# Altium schematic symbol library hphonglib.SchLib: 598 symbols (part 3 of 8)
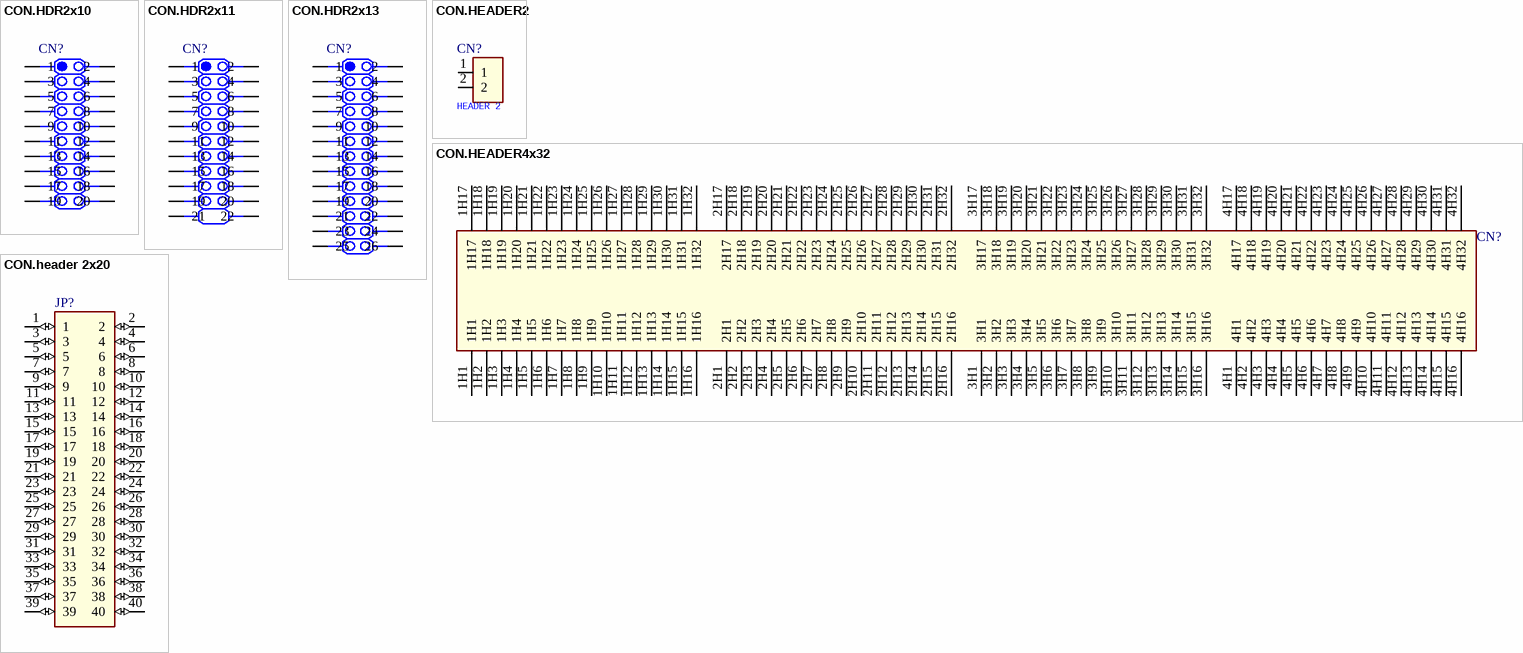
[diagram p33: symbols CON.HDR2x10 to CON.header 2x20]

## CON.HEADER4x32
designator CN?  (value not drawn)
Header 4x32; ComponentLink1Description: Digikey Part link; ComponentLink2Description: Open DataSheet; ComponentLink2URL: H:\LIBRARY\LIBRARY.Datasheet\
pins: 1H1, 1H2, 1H3, 1H4, 1H5, 1H6, 1H7, 1H8, 1H9, 1H10, 1H11, 1H12, 1H13, 1H14, 1H15, 1H16, 1H17, 1H18, 1H19, 1H20, 1H21, 1H22, 1H23, 1H24, 1H25, 1H26, 1H27, 1H28, 1H29, 1H30, 1H31, 1H32, 2H1, 2H2, 2H3, 2H4, 2H5, 2H6, 2H7, 2H8, 2H9, 2H10, 2H11, 2H12, 2H13, 2H14, 2H15, 2H16, 2H17, 2H18, 2H19, 2H20, 2H21, 2H22, 2H23, 2H24, 2H25, 2H26, 2H27, 2H28, 2H29, 2H30, 2H31, 2H32, 3H1, 3H2, 3H3, 3H4, 3H5, 3H6, 3H7, 3H8, 3H9, 3H10, 3H11, 3H12, 3H13, 3H14, 3H15, 3H16, 3H17, 3H18, 3H19, 3H20, 3H21, 3H22, 3H23, 3H24, 3H25, 3H26, 3H27, 3H28, 3H29, 3H30, 3H31, 3H32, 4H1, 4H2, 4H3, 4H4, 4H5, 4H6, 4H7, 4H8, 4H9, 4H10, 4H11, 4H12, 4H13, 4H14, 4H15, 4H16, 4H17, 4H18, 4H19, 4H20, 4H21, 4H22, 4H23, 4H24, 4H25, 4H26, 4H27, 4H28, 4H29, 4H30, 4H31, 4H32

## CON.header 2x20
designator JP?  (value not drawn)
2x20 header; Publisher: Hoang Nguyen; ComponentLink1Description: Digikey Part link; ComponentLink2Description: Open DataSheet; ComponentLink2URL: H:\LIBRARY\LIBRARY.Datasheet\
footprint HDR2X20
footprint HDR2X20H
pins: 1 (io), 2 (io), 3 (io), 4 (io), 5 (io), 6 (io), 7 (io), 8 (io), 9 (io), 10 (io), 11 (io), 12 (io), 13 (io), 14 (io), 15 (io), 16 (io), 17 (io), 18 (io), 19 (io), 20 (io), 21 (io), 22 (io), 23 (io), 24 (io), 25 (io), 26 (io), 27 (io), 28 (io), 29 (io), 30 (io), 31 (io), 32 (io), 33 (io), 34 (io), 35 (io), 36 (io), 37 (io), 38 (io), 39 (io), 40 (io)

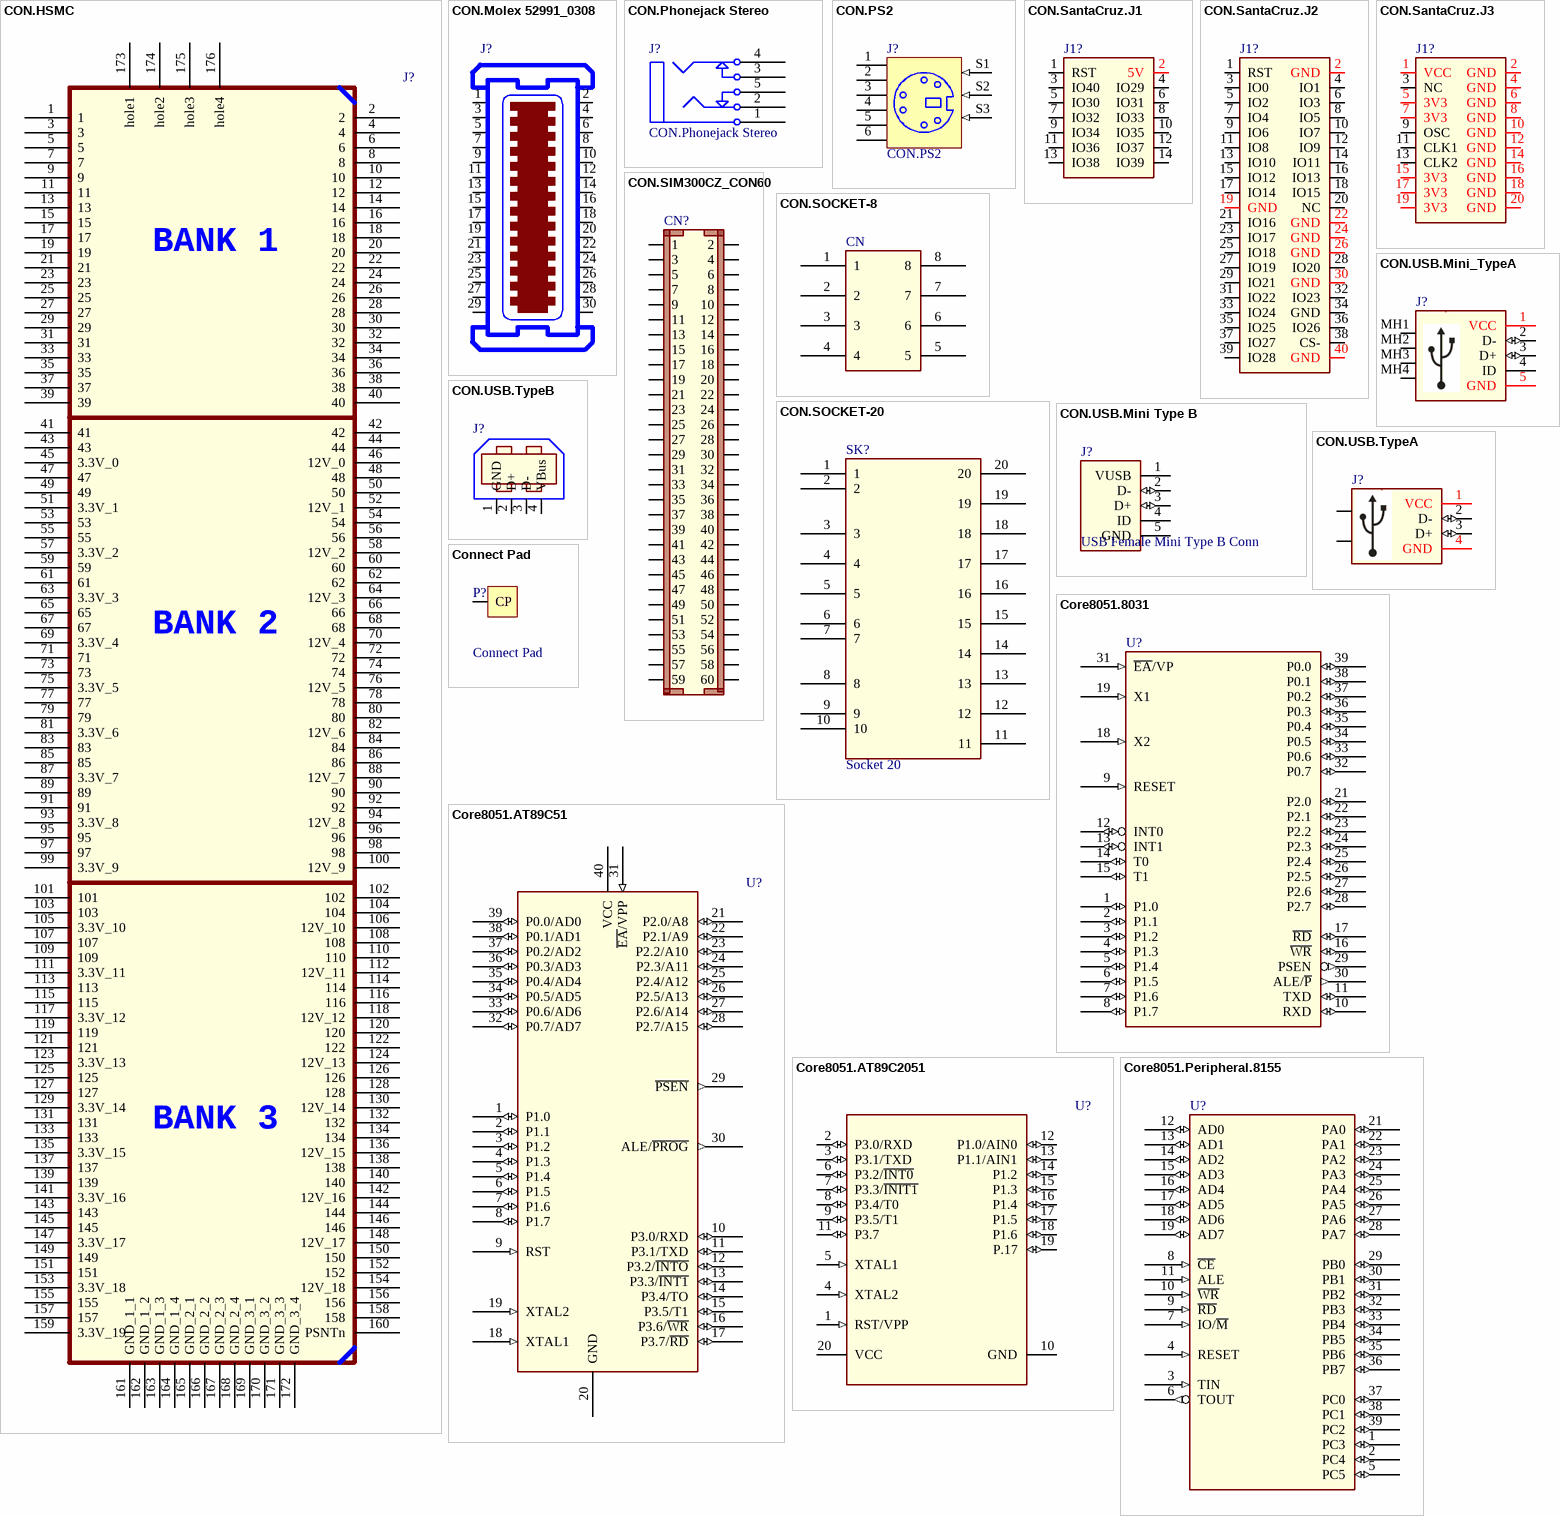
[diagram p9: symbols CON.HSMC to Core8051.Peripheral.8155]

## CON.HSMC
designator J?  (value not drawn)
HSMC Connector; Manufacturer: SamTec; Publisher: Hoang Nguyen; ComponentLink1Description: Digikey Part link; ComponentLink2Description: Open DataSheet; ComponentLink2URL: H:\LIBRARY\LIBRARY.Datasheet\
footprint CON.ASP-122952-01 (HSMC Male Connector)
pins: 1, 2, 3, 4, 5, 6, 7, 8, 9, 10, 11, 12, 13, 14, 15, 16, 17, 18, 19, 20, 21, 22, 23, 24, 25, 26, 27, 28, 29, 30, 31, 32, 33, 34, 35, 36, 37, 38, 39, 40, 41, 42, 43, 44, 45 3.3V_0, 46 12V_0, 47, 48, 49, 50, 51 3.3V_1, 52 12V_1, 53, 54, 55, 56, 57 3.3V_2, 58 12V_2, 59, 60, 61, 62, 63 3.3V_3, 64 12V_3, 65, 66, 67, 68, 69 3.3V_4, 70 12V_4, 71, 72, 73, 74, 75 3.3V_5, 76 12V_5, 77, 78, 79, 80, 81 3.3V_6, 82 12V_6, 83, 84, 85, 86, 87 3.3V_7, 88 12V_7, 89, 90, 91, 92, 93 3.3V_8, 94 12V_8, 95, 96, 97, 98, 99 3.3V_9, 100 12V_9, 101, 102, 103, 104, 105 3.3V_10, 106 12V_10, 107, 108, 109, 110, 111 3.3V_11, 112 12V_11, 113, 114, 115, 116, 117 3.3V_12, 118 12V_12, 119, 120, 121, 122, 123 3.3V_13, 124 12V_13, 125, 126, 127, 128, 129 3.3V_14, 130 12V_14, 131, 132, 133, 134, 135 3.3V_15, 136 12V_15, 137, 138, 139, 140, 141 3.3V_16, 142 12V_16, 143, 144, 145, 146, 147 3.3V_17, 148 12V_17, 149, 150, 151, 152, 153 3.3V_18, 154 12V_18, 155, 156, 157, 158, 159 3.3V_19, 160 PSNTn, 161 GND_1_1 (power), 162 GND_1_2 (power), 163 GND_1_3 (power), 164 GND_1_4 (power), 165 GND_2_1 (power), 166 GND_2_2 (power), 167 GND_2_3 (power), 168 GND_2_4 (power), 169 GND_3_1 (power), 170 GND_3_2 (power), 171 GND_3_3 (power), 172 GND_3_4 (power), 173 hole1, 174 hole2, 175 hole3, 176 hole4
text: BANK 1; BANK 2; BANK 3

## CON.Molex 52991_0308
designator J?  (value not drawn)
0.50mm (.020") Pitch SlimStack(TM) Receptacle, Surface Mount, Dual Row, Vertical; Manufacturer: Molex Corporation; Manufacturer P/N: 52991-0308; Voltage - Maximum: 50V; Current - Maximum: 500mA; Vendor: Digikey; Vendor P/N: 52991-0308-ND; Publisher: Hoang Nguyen; Temperature Range - Operating: -40°C to +105°C; Termination Interface: Surface Mount; ComponentLink1Description: Digikey Part link; ComponentLink1URL: http://search.digikey.com/scripts/DkSearch/dksus.dll?Detail&name=52991-0308-ND; ComponentLink2URL: http://www.molex.com/molex/products/datasheet.jsp?part=active/0529910308_PCB_RECEPTACLES.xml&channel=Products&Lang=en-US; ComponentLink2Description: Manufacture Link
footprint CON.Molex 52991_0308 (0.50mm (.020") Pitch SlimStack(TM) Receptacle, Surface Mount, Dual Row, Vertical)
pins: 1, 2, 3, 4, 5, 6, 7, 8, 9, 10, 11, 12, 13, 14, 15, 16, 17, 18, 19, 20, 21, 22, 23, 24, 25, 26, 27, 28, 29, 30

## CON.Phonejack Stereo
designator J?
3.5mm Audio Jack, Stereo; Published: 5-Jan-2004; DatasheetDocument: 07-Mar-2000; Publisher: Altium Limited; Mounting Type: Through Hole; ComponentLink1Description: Digikey Part link; ComponentLink2Description: Open DataSheet; ComponentLink2URL: H:\LIBRARY\LIBRARY.Datasheet\
footprint ST-3150-5N (Stereo Jack, 3.5mm, 5 Position)
pcadlib ST-3150-5N (Stereo Jack, 3.5mm, 5 Position)
pins: 1, 1A, 1B, 2, 2A, 2B, 3, 3A, 3B, 4, 4A, 4B, 5, 5A, 5B

## CON.PS2
designator J?
6 Pin Through Hole PS2 Socket (Kycon P/N); Published: 5-Jan-2004; Publisher: Altium Limited; ComponentLink1Description: Digikey Part link; ComponentLink2Description: Open DataSheet; ComponentLink2URL: H:\LIBRARY\LIBRARY.Datasheet\
footprint PS2-6PIN (PS2 Socket, 6 Pin, Through Hole)
pcadlib PS2-6PIN (PS2 Socket, 6 Pin, Through Hole)
pins: 1 KBD "Keyboard Data", 2 MSD "Mouse Data", 3 GND (power), 4 VCC (power), 5 KBC "Keyboard Clock", 6 MSC "Mouse Clk", S1 (in) "Shield", S2 (in) "Shield", S3 (in) "Shield"

## CON.SantaCruz.J1
designator J1?  (value not drawn)
SantaCruz.J1; Publisher: Hoang Nguyen; ComponentLink1Description: Digikey Part link; ComponentLink2Description: Open DataSheet; ComponentLink2URL: H:\LIBRARY\LIBRARY.Datasheet\
footprint HDR2X7
pins: 1 RST, 2 5V, 3 IO40, 4 IO29, 5 IO30, 6 IO31, 7 IO32, 8 IO33, 9 IO34, 10 IO35, 11 IO36, 12 IO37, 13 IO38, 14 IO39

## CON.SantaCruz.J2
designator J1?  (value not drawn)
SantaCruz.J2; Publisher: Hoang Nguyen; ComponentLink1Description: Digikey Part link; ComponentLink2Description: Open DataSheet; ComponentLink2URL: H:\LIBRARY\LIBRARY.Datasheet\
footprint HDR2X20
pins: 1 RST, 2 GND, 3 IO0, 4 IO1, 5 IO2, 6 IO3, 7 IO4, 8 IO5, 9 IO6, 10 IO7, 11 IO8, 12 IO9, 13 IO10, 14 IO11, 15 IO12, 16 IO13, 17 IO14, 18 IO15, 19 GND, 20 NC, 21 IO16, 22 GND, 23 IO17, 24 GND, 25 IO18, 26 GND, 27 IO19, 28 IO20, 29 IO21, 30 GND, 31 IO22, 32 IO23, 33 IO24, 34 GND, 35 IO25, 36 IO26, 37 IO27, 38 CS-, 39 IO28, 40 GND

## CON.SantaCruz.J3
designator J1?  (value not drawn)
SantaCruz.J3; Publisher: Hoang Nguyen; ComponentLink1Description: Digikey Part link; ComponentLink2Description: Open DataSheet; ComponentLink2URL: H:\LIBRARY\LIBRARY.Datasheet\
footprint HDR2X10
pins: 1 VCC, 2 GND, 3 NC, 4 GND, 5 3V3, 6 GND, 7 3V3, 8 GND, 9 OSC, 10 GND, 11 CLK1, 12 GND, 13 CLK2, 14 GND, 15 3V3, 16 GND, 17 3V3, 18 GND, 19 3V3, 20 GND

## CON.SIM300CZ_CON60
designator CN?  (value not drawn)
60 pins SIM300CZ; Publisher: Hoang Nguyen; ComponentLink1Description: Digikey Part link; ComponentLink2Description: Open DataSheet; ComponentLink2URL: H:\LIBRARY\LIBRARY.Datasheet\
footprint ASTRON 1590060-093
pins: 1, 2, 3, 4, 5, 6, 7, 8, 9, 10, 11, 12, 13, 14, 15, 16, 17, 18, 19, 20, 21, 22, 23, 24, 25, 26, 27, 28, 29, 30, 31, 32, 33, 34, 35, 36, 37, 38, 39, 40, 41, 42, 43, 44, 45, 46, 47, 48, 49, 50, 51, 52, 53, 54, 55, 56, 57, 58, 59, 60

## CON.SOCKET-8
designator CN, comment Socket 8  (value not drawn)
ComponentLink1Description: Digikey Part link; ComponentLink2Description: Open DataSheet; ComponentLink2URL: H:\LIBRARY\LIBRARY.Datasheet\
footprint IC8N (Footprint not found)
pins: 1, 2, 3, 4, 5, 6, 7, 8

## CON.SOCKET-20
designator SK?, comment Socket 20
ComponentLink1Description: Digikey Part link; ComponentLink2Description: Open DataSheet; ComponentLink2URL: H:\LIBRARY\LIBRARY.Datasheet\
footprint IC20N
pins: 1, 2, 3, 4, 5, 6, 7, 8, 9, 10, 11, 12, 13, 14, 15, 16, 17, 18, 19, 20

## CON.USB.Mini Type B
designator J?, comment USB Female Mini Type B Conn
USB Mini Type B Conn; Vendor: Digikey; Published: 13-April-2009; Publisher: Hoang Nguyen; ComponentLink1Description: Digikey Part Link; ComponentLink2Description: Open Datasheet; ComponentLink2URL: H:\LIBRARY\LIBRARY.Datasheet\
footprint USB Male Mini Type-B SMD (USB Male Mini Type B Conn)
footprint USB Mini B 1 (USB Male Mini Type B Conn)
pins: 1 VUSB (power), 2 D- (io), 3 D+ (io), 4 ID "Mini Type B - Not connected", 5 GND (power)

## CON.USB.Mini_TypeA
designator J?  (value not drawn)
Mini USB Type A Connector; Publisher: Hoang Nguyen; ComponentLink1Description: Digikey Part link; ComponentLink2Description: Open DataSheet; ComponentLink2URL: H:\LIBRARY\LIBRARY.Datasheet\
footprint USB Type A (Footprint not found)
pins: 1 VCC (power), 2 D- (io), 3 D+ (io), 4 ID (power) "Mini Type A - Connected to GND", 5 GND (power), MH1, MH2, MH3, MH4

## CON.USB.TypeA
designator J?  (value not drawn)
Type-A USB Connector; Publisher: Hoang Nguyen; ComponentLink1Description: Digikey Part link; ComponentLink2Description: Open DataSheet; ComponentLink2URL: H:\LIBRARY\LIBRARY.Datasheet\
footprint USB Male Type-A (USB Male Type A Connector)
pins: 1 VCC (power), 2 D- (io), 3 D+ (io), 4 GND (power), SHIELD, SHIELD

## CON.USB.TypeB
designator J?, comment USB Type B Conn  (value not drawn)
Vendor: Digikey; Published: 13-April-2009; Publisher: Hoang Nguyen; ComponentLink1Description: Digikey Part Link; ComponentLink2Description: Open Datasheet; ComponentLink2URL: H:\LIBRARY\LIBRARY.Datasheet\
footprint USB Male Type-B (USB Male Type B Connector)
footprint USB TypeB 2 (USB Male Type B Connector)
pins: 1 GND, 2 D+, 3 D-, 4 VBus

## Connect Pad
designator P?
Connect Pad, 1-Pin; LatestRevisionDate: 17-Jul-2002; LatestRevisionNote: Re-released for DXP Platform.; Publisher: Altium Limited
footprint CP (Connect Pad, 1-Pin)
pins: 1 CP

## Core8051.8031
designator U?  (value not drawn)
Intel 8031; Flash: Kb; SRAM: Bytes; Volt: V; CPU Speed (MIPS): 0 MIPS; Publisher: Hoang Nguyen; ComponentLink1Description: Degikey Part link; ComponentLink2Description: Open DataSheet; ComponentLink2URL: H:\LIBRARY\LIBRARY.Datasheet\
pins: 1 P1.0 (io), 2 P1.1 (io), 3 P1.2 (io), 4 P1.3 (io), 5 P1.4 (io), 6 P1.5 (io), 7 P1.6 (io), 8 P1.7 (io), 9 RESET (in), 10 RXD (io), 11 TXD (io), 12 INT0 (io), 13 INT1 (io), 14 T0 (io), 15 T1 (io), 16 ~{WR} (io), 17 ~{RD} (io), 18 X2 (in), 19 X1 (in), 20 VSS (power) hidden to VSS, 21 P2.0 (io), 22 P2.1 (io), 23 P2.2 (io), 24 P2.3 (io), 25 P2.4 (io), 26 P2.5 (io), 27 P2.6 (io), 28 P2.7 (io), 29 PSEN (out), 30 ALE/~{P} (out), 31 ~{EA}/VP (in), 32 P0.7 (io), 33 P0.6 (io), 34 P0.5 (io), 35 P0.4 (io), 36 P0.3 (io), 37 P0.2 (io), 38 P0.1 (io), 39 P0.0 (io), 40 VCC (power) hidden to VCC

## Core8051.AT89C51
designator U?  (value not drawn)
Atmel MCU; Flash: Kb; SRAM: Bytes; Volt: V; CPU Speed (MIPS): 0 MIPS; ComponentLink1Description: Degikey Part link; ComponentLink2Description: Open DataSheet; ComponentLink2URL: H:\LIBRARY\LIBRARY.Datasheet\; Publisher: Hoang Nguyen
footprint DIP600-40 (DIP, Plastic; 40 Leads; Row Spacing 15.24 mm; Pitch 2.54 mm)
pins: 1 P1.0 (io), 2 P1.1 (io), 3 P1.2 (io), 4 P1.3 (io), 5 P1.4 (io), 6 P1.5 (io), 7 P1.6 (io), 8 P1.7 (io), 9 RST (in), 10 P3.0/RXD (io), 11 P3.1/TXD (io), 12 P3.2/~{INTO} (io), 13 P3.3/~{INT1} (io), 14 P3.4/TO (io), 15 P3.5/T1 (io), 16 P3.6/~{WR} (io), 17 P3.7/~{RD} (io), 18 XTAL1 (in), 19 XTAL2 (in), 20 GND (power), 21 P2.0/A8 (io), 22 P2.1/A9 (io), 23 P2.2/A10 (io), 24 P2.3/A11 (io), 25 P2.4/A12 (io), 26 P2.5/A13 (io), 27 P2.6/A14 (io), 28 P2.7/A15 (io), 29 ~{PSEN} (out), 30 ALE/~{PROG} (out), 31 ~{EA}/VPP (in), 32 P0.7/AD7 (io), 33 P0.6/AD6 (io), 34 P0.5/AD5 (io), 35 P0.4/AD4 (io), 36 P0.3/AD3 (io), 37 P0.2/AD2 (io), 38 P0.1/AD1 (io), 39 P0.0/AD0 (io), 40 VCC (power)

## Core8051.AT89C2051
designator U?  (value not drawn)
Atmel MCU; Flash: Kb; SRAM: Bytes; Volt: V; CPU Speed (MIPS): 0 MIPS; Publisher: Hoang Nguyen; ComponentLink1Description: Degikey Part link; ComponentLink2Description: Open DataSheet; ComponentLink2URL: H:\LIBRARY\LIBRARY.Datasheet\AT89C2051.pdf
footprint DIP20
pins: 1 RST/VPP (in), 2 P3.0/RXD (io), 3 P3.1/TXD (io), 4 XTAL2 (in), 5 XTAL1 (in), 6 P3.2/~{INT0} (io), 7 P3.3/~{INIT1} (io), 8 P3.4/T0 (io), 9 P3.5/T1 (io), 10 GND (power), 11 P3.7 (io), 12 P1.0/AIN0 (io), 13 P1.1/AIN1 (io), 14 P1.2 (io), 15 P1.3 (io), 16 P1.4 (io), 17 P1.5 (io), 18 P1.6 (io), 19 P.17 (io), 20 VCC (power)

## Core8051.Peripheral.8155
designator U?  (value not drawn)
Mo rong Port song song; Flash: Kb; SRAM: Bytes; Volt: V; CPU Speed (MIPS): 0 MIPS; Publisher: Hoang Nguyen; ComponentLink1Description: Degikey Part link; ComponentLink2Description: Open DataSheet; ComponentLink2URL: H:\LIBRARY\LIBRARY.Datasheet\
pins: 1 PC3 (io), 2 PC4 (io), 3 TIN (in), 4 RESET (in), 5 PC5 (io), 6 TOUT (out), 7 IO/~{M} (in), 8 ~{CE} (in), 9 ~{RD} (in), 10 ~{WR} (in), 11 ALE (in), 12 AD0 (io), 13 AD1 (io), 14 AD2 (io), 15 AD3 (io), 16 AD4 (io), 17 AD5 (io), 18 AD6 (io), 19 AD7 (io), 20 VSS (power) hidden to VSS, 21 PA0 (io), 22 PA1 (io), 23 PA2 (io), 24 PA3 (io), 25 PA4 (io), 26 PA5 (io), 27 PA6 (io), 28 PA7 (io), 29 PB0 (io), 30 PB1 (io), 31 PB2 (io), 32 PB3 (io), 33 PB4 (io), 34 PB5 (io), 35 PB6 (io), 36 PB7 (io), 37 PC0 (io), 38 PC1 (io), 39 PC2 (io), 40 VCC (power) hidden to VCC

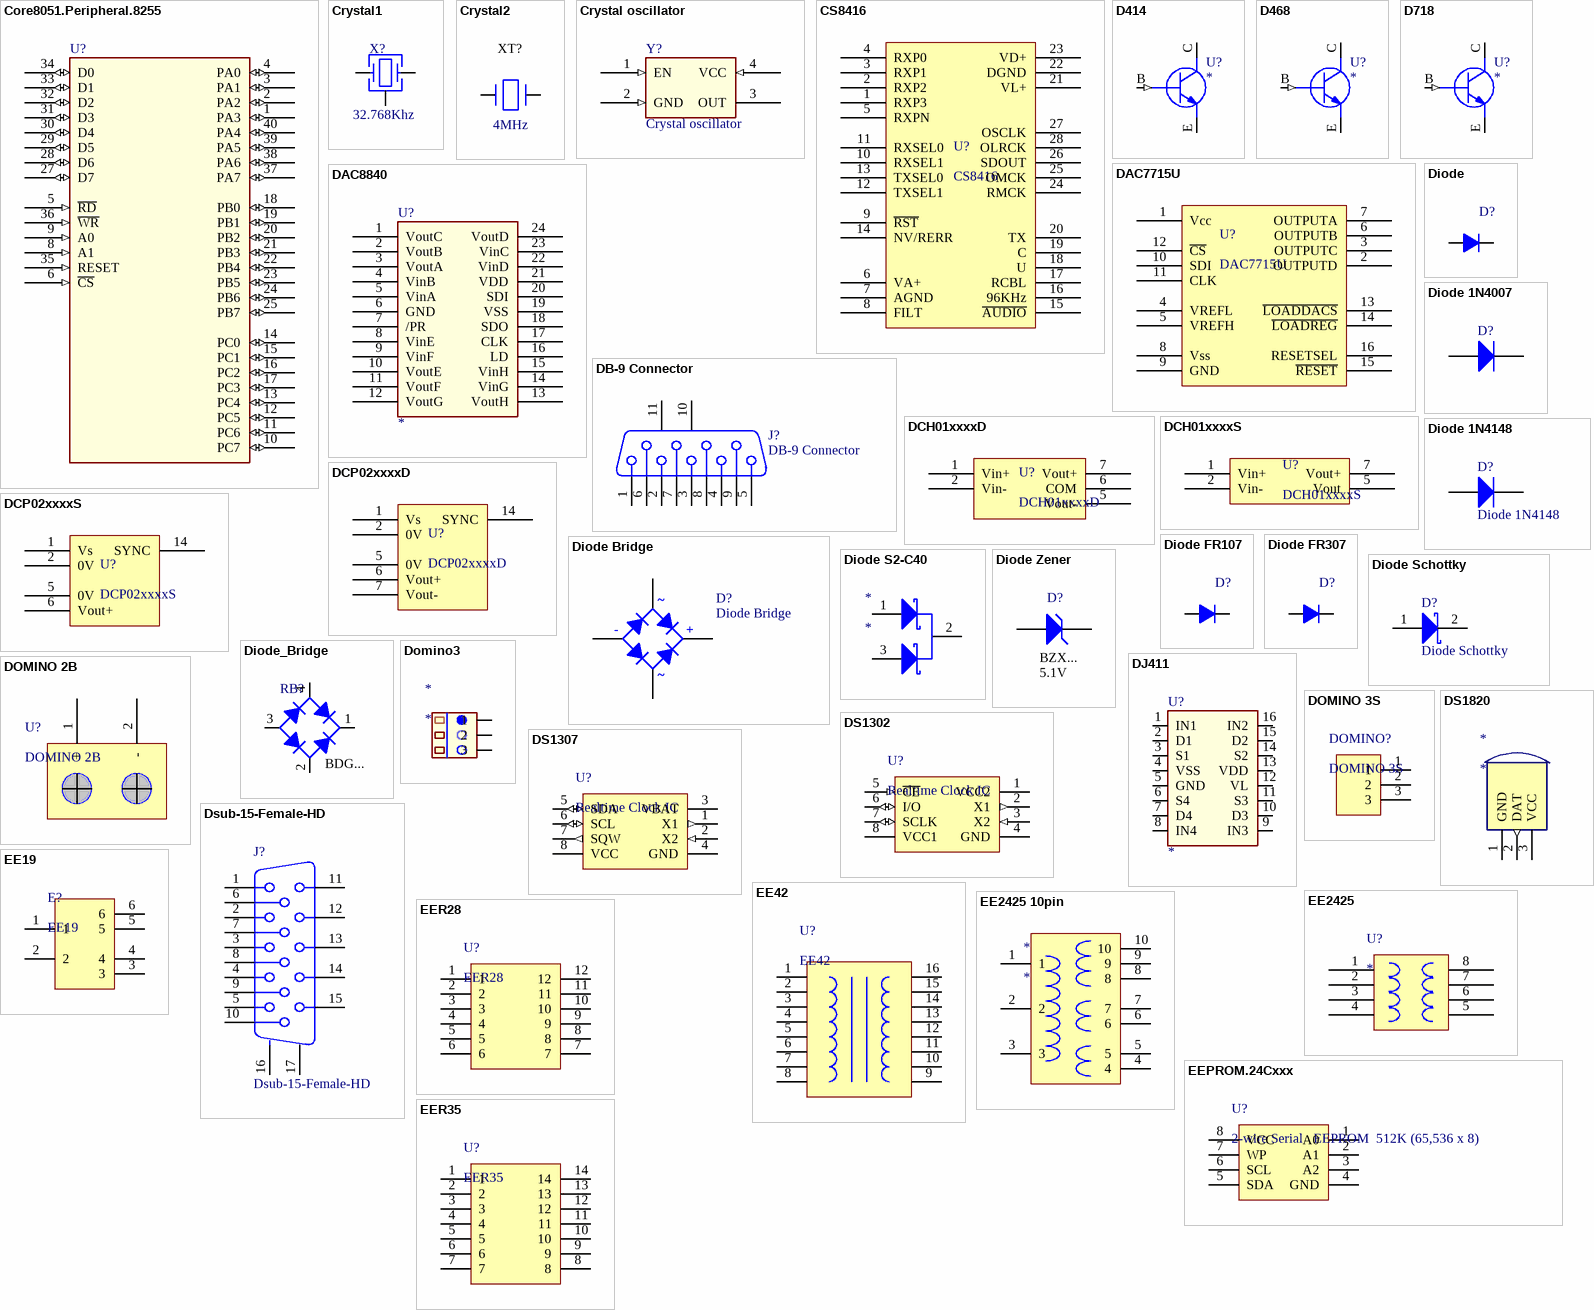
[diagram p10: symbols Core8051.Peripheral.8255 to EER35]

## Core8051.Peripheral.8255
designator U?  (value not drawn)
Mo rong Port xuat nhap song song; Flash: Kb; SRAM: Bytes; Volt: V; CPU Speed (MIPS): 0 MIPS; Publisher: Hoang Nguyen; ComponentLink1Description: Degikey Part link; ComponentLink2Description: Open DataSheet; ComponentLink2URL: H:\LIBRARY\LIBRARY.Datasheet\
pins: 1 PA3 (io), 2 PA2 (io), 3 PA1 (io), 4 PA0 (io), 5 ~{RD} (in), 6 ~{CS} (in), 7 GND (power) hidden to GND, 8 A1 (in), 9 A0 (in), 10 PC7 (io), 11 PC6 (io), 12 PC5 (io), 13 PC4 (io), 14 PC0 (io), 15 PC1 (io), 16 PC2 (io), 17 PC3 (io), 18 PB0 (io), 19 PB1 (io), 20 PB2 (io), 21 PB3 (io), 22 PB4 (io), 23 PB5 (io), 24 PB6 (io), 25 PB7 (io), 26 VCC (power) hidden to VCC, 27 D7 (io), 28 D6 (io), 29 D5 (io), 30 D4 (io), 31 D3 (io), 32 D2 (io), 33 D1 (io), 34 D0 (io), 35 RESET (in), 36 ~{WR} (in), 37 PA7 (io), 38 PA6 (io), 39 PA5 (io), 40 PA4 (io)

## Crystal1
designator X?  value 32.768Khz
Tuning Forl Crystal Units (SMD-Cylinder Type); Vendor: Digikey; ComponentLink1URL: http://search.digikey.com/scripts/DkSearch/dksus.dll?Detail&name=300-2066-1-ND; ComponentLink1Description: Digikey Part Link; ComponentLink2URL: H:\LIBRARY\LIBRARY.Datasheet\k-cmr.pdf; ComponentLink2Description: Open Datasheet; Publisher: Hoang Nguyen; Published: 13-April-2009
footprint Crystal cylinder (Crystal footsprint type 1)
pins: 1, 2, 3 GND

## Crystal2
designator XT?  value 4MHz  (hidden comment: *)
Quarz Crystal; Vendor: Digikey; Published: 13-April-2009; Publisher: Hoang Nguyen; ComponentLink1Description: Digikey Part Link; ComponentLink2Description: Open Datasheet; ComponentLink2URL: H:\LIBRARY\LIBRARY.Datasheet\; Price: 2000 VND
footprint Crystal.HC49/USxx (HC49USxx package)
footprint Crystal.HC49/U (HC49U package)
footprint Crystal.HC49_N (HC49USxx package)
footprint Crystal.smd_N (HC49USxx package)
pins: 1, 2

## Crystal oscillator
designator Y?
Crystal oscillator - TTL; ComponentLink1Description: Digikey Part Link; ComponentLink2Description: Open Datasheet; ComponentLink2URL: H:\LIBRARY\LIBRARY.Datasheet\
footprint OSC - DIP8
footprint OSC - DIP14
pins: 1 EN (in), 2 GND (in), 3 OUT, 4 VCC (in)

## CS8416
designator U?
192 kHz Digital Audio Interface Receiver
footprint DIP-28W (DIP; 28 Leads; Row Spacing 15.24 mm; Pitch 2.54 mm)
footprint SOIC-28W (SOIC, 28-Leads, Body 17.9x7.5mm, Pitch 1.27mm, IPC Low Density)
pins: 1 RXP3, 2 RXP2, 3 RXP1, 4 RXP0, 5 RXPN, 6 VA+, 7 AGND, 8 FILT, 9 ~{RST}, 10 RXSEL1, 11 RXSEL0, 12 TXSEL1, 13 TXSEL0, 14 NV/RERR, 15 ~{AUDIO}, 16 96KHz, 17 RCBL, 18 U, 19 C, 20 TX, 21 VL+, 22 DGND, 23 VD+, 24 RMCK, 25 OMCK, 26 SDOUT, 27 OSCLK, 28 OLRCK

## D414
designator U?
NPN Bipolar Transistor; Vendor: Digikey; Published: 13-April-2009; Publisher: Hoang Nguyen; ComponentLink1Description: Digikey Part Link; ComponentLink2Description: Open Datasheet; ComponentLink2URL: H:\LIBRARY\LIBRARY.Datasheet\
pins: B BASE (in), C COLLECTOR, E EMITOR

## D468
designator U?
NPN Bipolar Transistor; Vendor: Digikey; Published: 13-April-2009; Publisher: Hoang Nguyen; ComponentLink1Description: Digikey Part Link; ComponentLink2Description: Open Datasheet; ComponentLink2URL: H:\LIBRARY\LIBRARY.Datasheet\
pins: B BASE (in), C COLLECTOR, E EMITOR

## D718
designator U?
NPN Bipolar Transistor; Vendor: Digikey; Published: 13-April-2009; Publisher: Hoang Nguyen; ComponentLink1Description: Digikey Part Link; ComponentLink2Description: Open Datasheet; ComponentLink2URL: H:\LIBRARY\LIBRARY.Datasheet\
pins: B BASE (in), C COLLECTOR, E EMITOR

## DAC7715U
designator U?
4 Channel, 12-Bit Voltage Output D/A Converter
footprint SOIC-16N (SOIC, 16-Leads, Body 9.9x3.9mm, Pitch 1.27mm, IPC High Density)
pins: 1 Vcc, 2 OUTPUTD, 3 OUTPUTC, 4 VREFL, 5 VREFH, 6 OUTPUTB, 7 OUTPUTA, 8 Vss, 9 GND, 10 SDI, 11 CLK, 12 ~{CS}, 13 ~{LOADDACS}, 14 ~{LOADREG}, 15 ~{RESET}, 16 RESETSEL

## DAC8840
designator U?
Digital to Analog Converter; Vendor: Digikey; Published: 13-April-2009; Publisher: Hoang Nguyen; ComponentLink1Description: Digikey Part Link; ComponentLink2Description: Open Datasheet; ComponentLink2URL: H:\LIBRARY\LIBRARY.Datasheet\
pins: 1 VoutC, 2 VoutB, 3 VoutA, 4 VinB, 5 VinA, 6 GND (power), 7 /PR, 8 VinE, 9 VinF, 10 VoutE, 11 VoutF, 12 VoutG, 13 VoutH, 14 VinG, 15 VinH, 16 LD, 17 CLK, 18 SDO, 19 VSS (power), 20 SDI, 21 VDD (power), 22 VinD, 23 VinC, 24 VoutD

## DB-9 Connector
designator J?
9-pin, D-Subminiature Connector; PackageDocument: O; Positions: 9; Gender: Receptacle; Published: 15-Jun-2001; LatestRevisionDate: 17-Jul-2002; LatestRevisionNote: Re-released for DXP Platform.; DatasheetDocument: 1-Sep-1999; PackageReference: 788750; Publisher: Altium Limited; Orientation: Right Angle
footprint DB-9 (Connector; D Subminiature; 9 Position; Right Angle; Pitch 1.385 mm)
pins: 1, 2, 3, 4, 5, 6, 7, 8, 9, 10 MH1, 11 MH2

## DCH01xxxxD
designator U?
1W, Dual 3kV Isolated Unregulated DC/DC Converters
footprint SIP-7D (Industry Standard SIP-7 Dual)
pins: 1 Vin+, 2 Vin-, 5 Vout-, 6 COM, 7 Vout+

## DCH01xxxxS
designator U?
1W, Single 3kV Isolated Unregulated DC/DC Converters
footprint SIP-7S (Industry Standard SIP-7 Single)
pins: 1 Vin+, 2 Vin-, 5 Vout, 7 Vout+

## DCP02xxxxD
designator U?
2W, Dual Isolated Unregulated DC/DC Converters
footprint DIP-14 (DIP, 14-Pin, Row Spacing 7.62 mm, Pitch 2.54 mm)
pins: 1 Vs, 2 0V, 5 0V, 6 Vout+, 7 Vout-, 14 SYNC

## DCP02xxxxS
designator U?
2W, Single Isolated Unregulated DC/DC Converters
footprint DIP-14 (DIP, 14-Pin, Row Spacing 7.62 mm, Pitch 2.54 mm)
pins: 1 Vs, 2 0V, 5 0V, 6 Vout+, 14 SYNC

## Diode
designator D?  (value not drawn)
Vendor: Digikey; Value: FRxxx; Published: 8-Jun-2000; LatestRevisionDate: 17-Jul-2002; LatestRevisionNote: Re-released for DXP Platform.; DatasheetDocument: 1997; PackageReference: DO-35; Publisher: Altium Limited; Code_JEDEC: DO-204-AH; ComponentLink1Description: Digikey Part Link; ComponentLink1URL: http://www.fairchildsemi.com/; ComponentLink2Description: Open Datasheet; ComponentLink2URL: H:\LIBRARY\LIBRARY.Datasheet\ds26003.pdf
footprint DO-35 (Footprint not found)
signal-integrity model 1N914
footprint DO-7 (Diode, Axial; Body 7 x 2.7 mm (LxDia. max), Lead Dia. 0.53 mm (max))
footprint DO-35A (Diode, Axial; Body 4.6 x 1.9 mm (LxDia. max), Lead Dia. 0.53 mm (max))
footprint DO-41 (Diode, Axial; Body 5.2 x 2.7 mm (LxDia. max), Lead Dia. 0.86 mm (max))
footprint DO-201AD (Diode, Axial; Body 9.5 x 5.6 mm (LxDia. max), Lead Dia. 1.32 mm (max))
footprint DO-204AL (Diode, Axial; Body 5.2 x 2.7 mm (LxDia. max), Lead Dia. 0.86 mm (max))
footprint DO-214
footprint DO-214AA,SMB
footprint DO-214AB,SMC
footprint DO-214AC,SMA
footprint D1208
footprint MELF
footprint SOD80 (SOD80 Diode, 2-Leads, Body 3.4x1.4mm, IPC Medium Density)
footprint FR307
footprint Zener
footprint Diode Stand (500mW , Axial; Body 3.8 x 1.9 mm (LxDia. max), Lead Dia. 0.53 mm (max))
pins: 1 A, 2 K

## Diode 1N4007
designator D?
1 Amp General Purpose Rectifier; Published: 8-Jun-2000; LatestRevisionDate: 17-Jul-2002; LatestRevisionNote: Re-released for DXP Platform.; DatasheetVersion: 1998; PackageVersion: Aug-1999; PackageReference: DO-41; Publisher: Altium Limited; PackageDescription: Diode, Axial; Body 5.2 x 2.7 mm (LxDia. max), Lead Dia. 0.86 mm (max); Code_JEDEC: DO-204-AL; ComponentLink1Description: Manufacturer Link; ComponentLink1URL: http://www.fairchildsemi.com/; ComponentLink2Description: Datasheet; ComponentLink2URL: http://www.fairchildsemi.com/ds/1N%2F1N4001.pdf
footprint DO-41 (Diode, Axial; Body 5.2 x 2.7 mm (LxDia. max), Lead Dia. 0.86 mm (max))
simulation model 1N4007 (DIODE)
signal-integrity model 1N4007
pins: 1 A, 2 K

## Diode 1N4148
designator D?
High Conductance Fast Diode; Published: 8-Jun-2000; LatestRevisionDate: 17-Jul-2002; LatestRevisionNote: Re-released for DXP Platform.; DatasheetVersion: 1997; PackageReference: DO-35; Publisher: Altium Limited; PackageDescription: Diode, Axial; Body 3.8 x 1.9 mm (LxDia. max), Lead Dia. 0.53 mm (max); Code_JEDEC: DO-204-AH; ComponentLink1Description: Manufacturer Link; ComponentLink1URL: http://www.fairchildsemi.com/; ComponentLink2Description: Datasheet; ComponentLink2URL: http://www.fairchildsemi.com/ds/1N%2F1N4148.pdf
footprint DO-35 (Diode, Axial; Body 3.8 x 1.9 mm (LxDia. max), Lead Dia. 0.53 mm (max))
simulation model 1N4148 (DIODE)
signal-integrity model 1N4148
pins: 1 A, 2 K

## Diode Bridge
designator D?
Full Wave Diode Bridge; Published: 8-Jun-2000; LatestRevisionDate: 17-Jul-2002; LatestRevisionNote: Re-released for DXP Platform.; PackageReference: D-38; Publisher: Altium Limited
footprint DIODE BRIDGE (1A) (Diode Bridge 1A; Solder Pad 35mil)
footprint DIODE BRIDGE (35A-50A) (Diode Bridge 35A-50A; Solder Pad 35mil)
footprint DIODE BRIDGE (5A) (Diode Bridge 5A; Solder Pad 35mil)
pins: 1 K, 2 C, 3 C, 4 A
text: ~; -; +

## Diode FR107
designator D?  (value not drawn)
Diode RECT FAST REC 1000V 1A DO-41; Vendor: Digikey; Current: 1Amp; Published: 8-Jun-2000; LatestRevisionDate: 17-Jul-2002; LatestRevisionNote: Re-released for DXP Platform.; DatasheetDocument: 1997; PackageReference: DO-35; Publisher: Altium Limited; Code_JEDEC: DO-204-AH; ComponentLink1Description: Digikey Part Link; ComponentLink1URL: http://www.fairchildsemi.com/; ComponentLink2Description: Open Datasheet; ComponentLink2URL: H:\LIBRARY\LIBRARY.Datasheet\ds26003.pdf; Value: FR107
signal-integrity model 1N914
footprint DO-41 (Diode, Axial; Body 5.2 x 2.7 mm (LxDia. max), Lead Dia. 0.86 mm (max))
pins: 1 A, 2 K

## Diode FR307
designator D?  (value not drawn)
Diode RECT FAST REC 1000V 3A DO-201AD; Vendor: Digikey; Current: 3Amp; Published: 8-Jun-2000; LatestRevisionDate: 17-Jul-2002; LatestRevisionNote: Re-released for DXP Platform.; DatasheetDocument: 1997; PackageReference: DO-35; Publisher: Altium Limited; Code_JEDEC: DO-204-AH; ComponentLink1Description: Digikey Part Link; ComponentLink1URL: http://www.fairchildsemi.com/; ComponentLink2Description: Open Datasheet; ComponentLink2URL: H:\LIBRARY\LIBRARY.Datasheet\ds26003.pdf; Value: FR307
signal-integrity model 1N914
footprint FR307
footprint DO-201AD (Diode FR30x, Axial; Body 9.5 x 5.6 mm (LxDia. max), Lead Dia. 1.32 mm (max))
pins: 1 A, 2 K

## Diode S2-C40
designator *
pins: 1 A, 2 K, 3 A

## Diode Schottky
designator D?
Schottky Rectifier; Note: Terminal 2 is the TAB and is electrically connected to the cathode; Published: 8-Jun-2000; LatestRevisionDate: 17-Jul-2002; LatestRevisionNote: Re-released for DXP Platform.; DatasheetDocument: PD-2.057B; PackageDocument: Feb-1998; PackageReference: TO-220AC; Publisher: Altium Limited; ComponentLink1Description: Manufacturer Link; ComponentLink1URL: http://www.irf.com/; ComponentLink2Description: Datasheet; ComponentLink2URL: http://www.irf.com/product-info/datasheets/data/10tq.pdf
footprint DO-35 (Diode, Axial; Body 3.8 x 1.9 mm (LxDia. max), Lead Dia. 0.53 mm (max); Solder Pad 35mil)
footprint DO-41 (Diode, Axial; Body 5.2 x 2.7 mm (LxDia. max), Lead Dia. 0.86 mm (max); Solder Pad 35mil)
footprint TO-220-D (TO-220; Diode; 2 Leads; Solder Pad 35mil)
footprint TO-220-D-Heatsink (TO-220; Diode; Heatsink; 2 Leads; Solder Pad 35mil)
pins: 1 A, 2 4

## Diode Zener
designator D?  value BZX...  Volt: 5.1V  (hidden comment: Diode Zener)
Zener Diode; Vendor: Digikey; Published: 8-Jun-2000; LatestRevisionDate: 17-Jul-2002; LatestRevisionNote: Re-released for DXP Platform.; PackageReference: DIODE-0.7; Publisher: Altium Limited; ComponentLink1Description: Digikey Part Link; ComponentLink2Description: Open Datasheet; ComponentLink2URL: H:\LIBRARY\LIBRARY.Datasheet\
footprint DO-7 (Diode, Axial; Body 7 x 2.7 mm (LxDia. max), Lead Dia. 0.53 mm (max))
signal-integrity model D Zener
footprint DO-35 (Diode, Axial; Body 3.8 x 1.9 mm (LxDia. max), Lead Dia. 0.53 mm (max))
footprint D1208
footprint MELF
pins: 1 A, 2 K

## Diode_Bridge
designator RB?, comment value BDG...  (hidden comment: Diode Bridge)
Rectifier Bridge; Vendor: Digikey; Published: 8-Jun-2000; LatestRevisionDate: 17-Jul-2002; LatestRevisionNote: Re-released for DXP Platform.; DatasheetDocument: E2732B; PackageReference: D-38; Publisher: Altium Limited; ComponentLink1Description: Digikey Part Link; ComponentLink1URL: http://www.irf.com/; ComponentLink2Description: Open Datasheet; ComponentLink2URL: http://www.irf.com/product-info/datasheets/data/1kab-e.pdf
footprint DB-37 (SIP; 4 Leads; Body 15 x 17.5 x 6.8 mm (typ); Pitch 5.1 mm)
footprint DB-38 (Bridge Rectifier; 4 Terminals; Body 9.4 x 9.4 mm (typ); Pitch 5.08 mm)
footprint DB-38R (Body round diam. 9mm)
footprint DB-44 (SIP; 4 Leads; Body 15 x 17.5 x 6.8 mm (typ); Pitch 3.8 mm)
footprint DB-46_3A (Bridge Rectifier; 4 Terminals; Body 16.8 x 16.8 mm (typ); Pitch 10.67 mm)
footprint DB-46_6A (Bridge Rectifier; 4 Terminals; Body 16.8 x 16.8 mm (typ); Pitch 10.67 mm)
footprint DB-72 (Bridge Rectifier; 4 Terminals; Body 15.2 x 15.2 mm (typ); Pitch 10.4 mm)
footprint DB-RECT (SIP Bridge rectifier - body 40x10 mm)
pins: 1 K, 2 C, 3 A, 4 C

## DJ411
designator U?
Vendor: Digikey; Published: 13-April-2009; Publisher: Hoang Nguyen; ComponentLink1Description: Digikey Part Link; ComponentLink2Description: Open Datasheet; ComponentLink2URL: H:\LIBRARY\LIBRARY.Datasheet\
footprint IC16
pins: 1 IN1, 2 D1, 3 S1, 4 VSS, 5 GND, 6 S4, 7 D4, 8 IN4, 9 IN3, 10 D3, 11 S3, 12 VL, 13 VDD, 14 S2, 15 D2, 16 IN2

## Domino3
designator *
footprint Domino 3N
pins: 1, 2, 3

## DOMINO 2B
designator U?
footprint DOMINO 2B
pins: 1 +, 2 -

## DOMINO 3S
designator DOMINO?
footprint DOMINO 3S (3 terminal 5.04 spacing)
pins: 1, 2, 3

## DS1302
designator U?, comment Realtime Clock IC
Manufacturer: Maxim; ComponentLink1Description: Digikey Part Link; ComponentLink2Description: Open Datasheet; ComponentLink2URL: H:\LIBRARY\LIBRARY.Datasheet\DS1302.pdf
footprint dip8 (Dual Inline Package 8 pins)
pins: 1 VCC2 (power), 2 X1 (out), 3 X2 (in), 4 GND (power), 5 ~{CE} (in), 6 I/O (io), 7 SCLK (io), 8 VCC1 (power)

## DS1307
designator U?, comment Realtime Clock IC
Manufacturer: Maxim; ComponentLink1Description: Digikey Part Link; ComponentLink2Description: Open Datasheet; ComponentLink2URL: H:\LIBRARY\LIBRARY.Datasheet\DS1307.pdf
footprint DS1307.Dip8 (Dual Inline Package 8 pins)
footprint SOIC8
pins: 1 X1 (out), 2 X2 (in), 3 VBAT (power), 4 GND (power), 5 SDA (io), 6 SCL (io), 7 SQW (out), 8 VCC (power)

## DS1820
designator *
footprint TO92-ECB (C1815)
pins: 1 GND (power), 2 DAT (out), 3 VCC (power)

## Dsub-15-Female-HD
designator J?
7915 Series Dsub-15 High density VGA Female connector; Published: 5-Jan-2004; Publisher: Altium Limited; ComponentLink1Description: Digikey Part link; ComponentLink2Description: Open DataSheet; ComponentLink2URL: H:\LIBRARY\LIBRARY.Datasheet\
footprint DB15-VGA-Female (7915 Series DSUB Right Angle VGA Female connector; Body Width, 30.81mm, 15 Positions)
pcadlib DB15-VGA-Female (7915 Series DSUB Right Angle VGA Female connector; Body Width, 30.81mm, 15 Positions)
pins: 1 "Red Video", 2 "Green Video", 3 "Blue Video", 4 "Monitor ID Bit 2 (Ground)", 5 (power) "Ground", 6 (power) "Red Return (Ground)", 7 (power) "Green Return (Ground)", 8 (power) "Blue Return (Ground)", 9 "Key (not used)", 10 (power) "Sync Return (Ground)", 11 (power) "Monitor ID Bit 0 (Ground)", 12 "Monitor ID Bit 1 (Not Used)", 13 "Horizontal Zync", 14 "Vertical Sync", 15 "Vertical Sync", 16 MH1 "shield", 17 MH2 "shield"

## EE19
designator E?
footprint EE19 (EE19 ferrit core)
pins: 1, 2, 3, 4, 5, 6

## EE42
designator U?
footprint EE42
pins: 1, 2, 3, 4, 5, 6, 7, 8, 9, 10, 11, 12, 13, 14, 15, 16

## EE2425
designator U?
footprint EE2425 (Ferrit core)
pins: 1, 2, 3, 4, 5, 6, 7, 8

## EE2425 10pin
designator *
footprint EE2425/10pin
pins: 1, 2, 3, 4, 5, 6, 7, 8, 9, 10

## EEPROM.24Cxxx
designator U?, comment 2-wire Serial   EEPROM  512K (65,536 x 8)
Manufacturer: Atmel; Value: 512Kb; ComponentLink2Description: Open datasheet; ComponentLink2URL: H:\LIBRARY\LIBRARY.Datasheet\24c512.pdf
footprint Dip8 (Dual Inline Package 8 pins)
footprint SOIC8
pins: 1 A0, 2 A1, 3 A2, 4 GND (power), 5 SDA, 6 SCL, 7 WP, 8 VCC (power)

## EER28
designator U?
footprint EER28S (Stand EER core)
pins: 1, 2, 3, 4, 5, 6, 7, 8, 9, 10, 11, 12

## EER35
designator U?
footprint EER35
pins: 1, 2, 3, 4, 5, 6, 7, 8, 9, 10, 11, 12, 13, 14

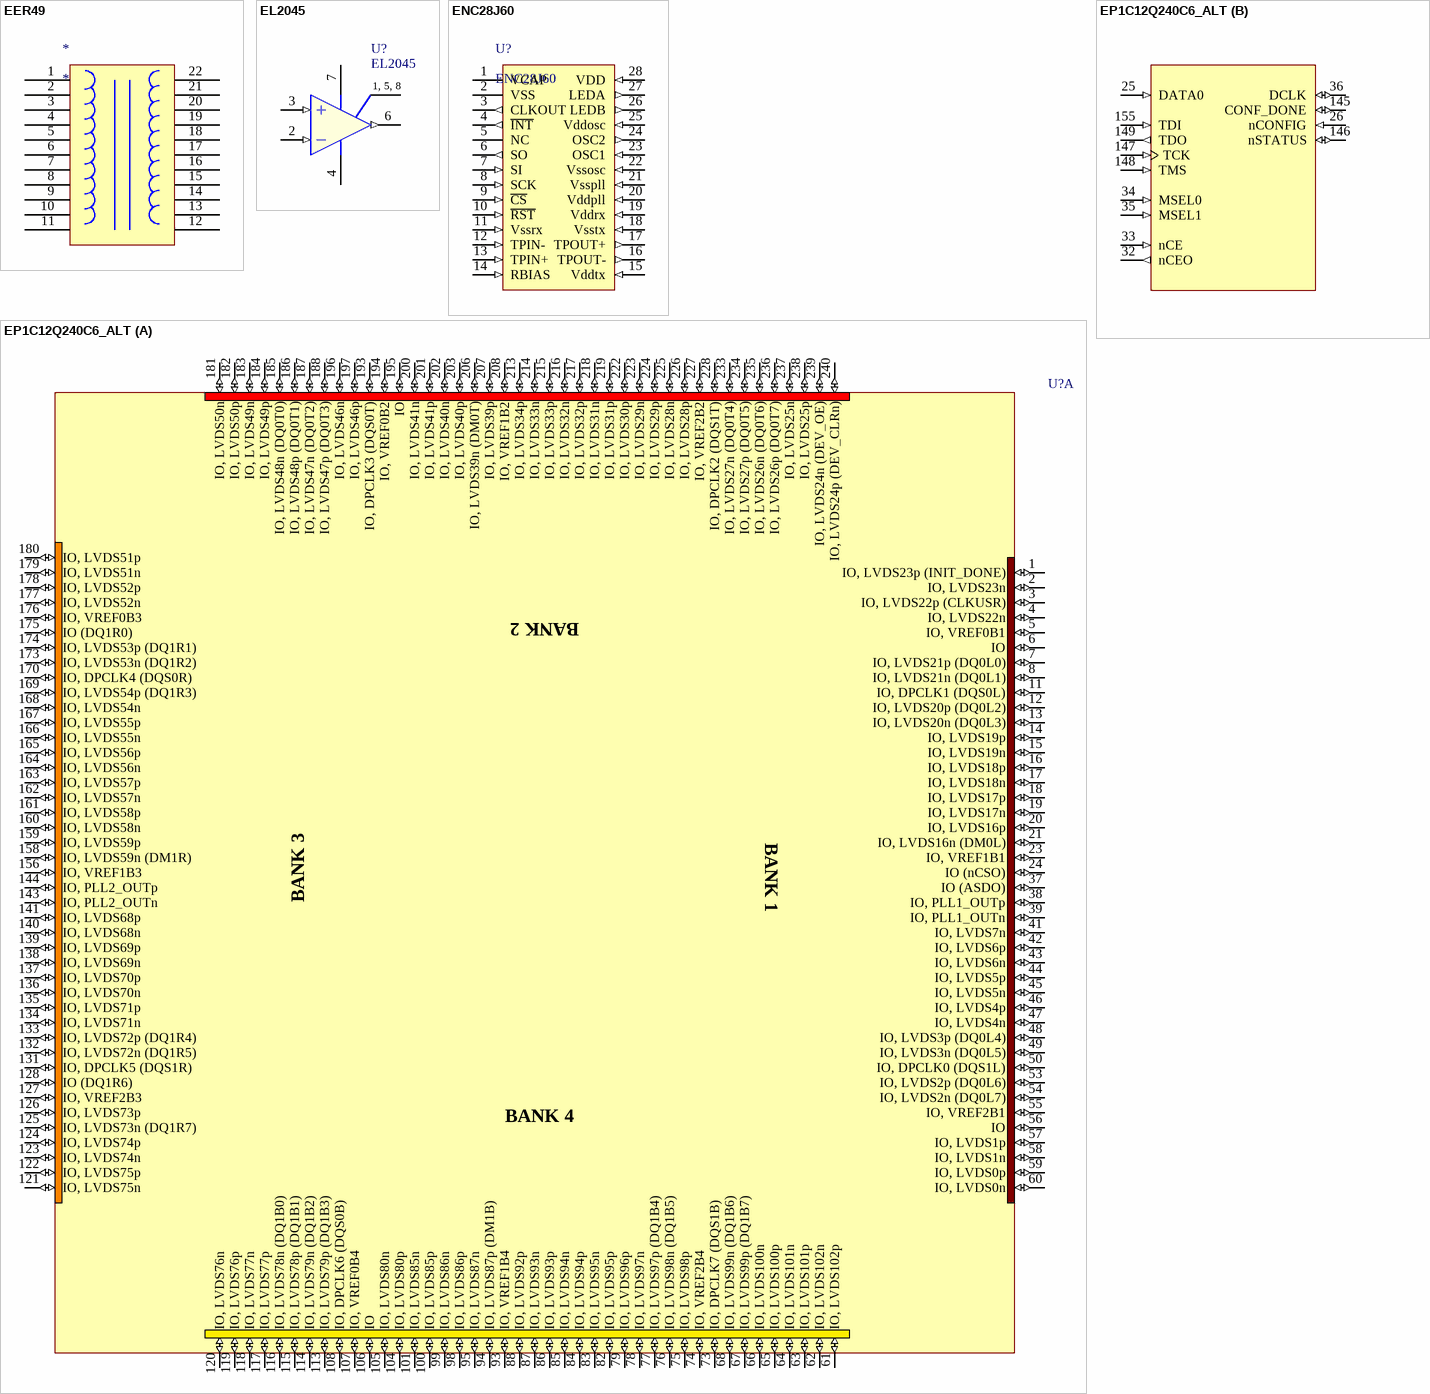
[diagram p11: symbols EER49 to EP1C12Q240C6_ALT]

## EER49
designator *
footprint EER35
pins: 1, 2, 3, 4, 5, 6, 7, 8, 9, 10, 11, 12, 13, 14, 15, 16, 17, 18, 19, 20, 21, 22

## EL2045
designator U?
Low Power 100 MHz Gain-of-2 Stable Operational Amplifier; Note: Pins 1,5,8 are No Connection; Published: 8-Jun-2000; LatestRevisionDate: 17-Jul-2002; LatestRevisionNote: Re-released for DXP Platform.; DatasheetVersion: Dec-1995; PackageReference: MDP0031-8; Publisher: Altium Limited; PackageDescription: DIP; 8 Leads; Row Spacing 7.62 mm; Pitch 2.54 mm; ComponentLink1Description: Manufacturer Link; ComponentLink1URL: http://www.intersil.com/cda/home/; ComponentLink2Description: Datasheet; ComponentLink2URL: http://www.intersil.com/data/fn/fn7030.pdf
footprint DIP-8 (DIP; 8 Leads; Row Spacing 7.62 mm; Pitch 2.54 mm)
footprint SOIC8 (SOIC, 8-Leads, Body 4.9x3.9mm, Pitch 1.27mm, IPC Medium Density)
pins: 1 NC, 2 IN- (in), 3 IN+ (in), 4 V- (power), 5 NC, 6 OUT (out), 7 V+ (power), 8 NC
text: 1, 5, 8

## ENC28J60
designator U?
Stand-alone Ethernet Controller with SPI; Manufacturer: MicroChip; Voltage: 3.1V to 3.6V; Price: 70.000VND; ComponentLink2Description: Open Datasheet; ComponentLink2URL: H:\LIBRARY\LIBRARY.Datasheet\ENC28J60.pdf
footprint DIP28-300 (DIP, Plastic, Skinny; 28 Leads; Row Spacing 7.62 mm; Pitch 2.54 mm)
footprint SOIC300-28_N (SOIC, 28-Leads, Body 17.9x7.5mm, Pitch 1.27mm, IPC Medium Density)
footprint DIP28-300N (DIP, Plastic, Skinny; 28 Leads; Row Spacing 7.62 mm; Pitch 2.54 mm)
pins: 1 VCAP (power), 2 VSS (power), 3 CLKOUT (out), 4 ~{INT} (out), 5 NC, 6 SO (out), 7 SI (in), 8 SCK (in), 9 ~{CS} (in), 10 ~{RST} (in), 11 Vssrx (in), 12 TPIN- (in), 13 TPIN+ (in), 14 RBIAS (in), 15 Vddtx (in), 16 TPOUT- (out), 17 TPOUT+ (out), 18 Vsstx (in), 19 Vddrx (in), 20 Vddpll (in), 21 Vsspll (in), 22 Vssosc (in), 23 OSC1 (in), 24 OSC2 (out), 25 Vddosc (in), 26 LEDB (out), 27 LEDA (out), 28 VDD (in)

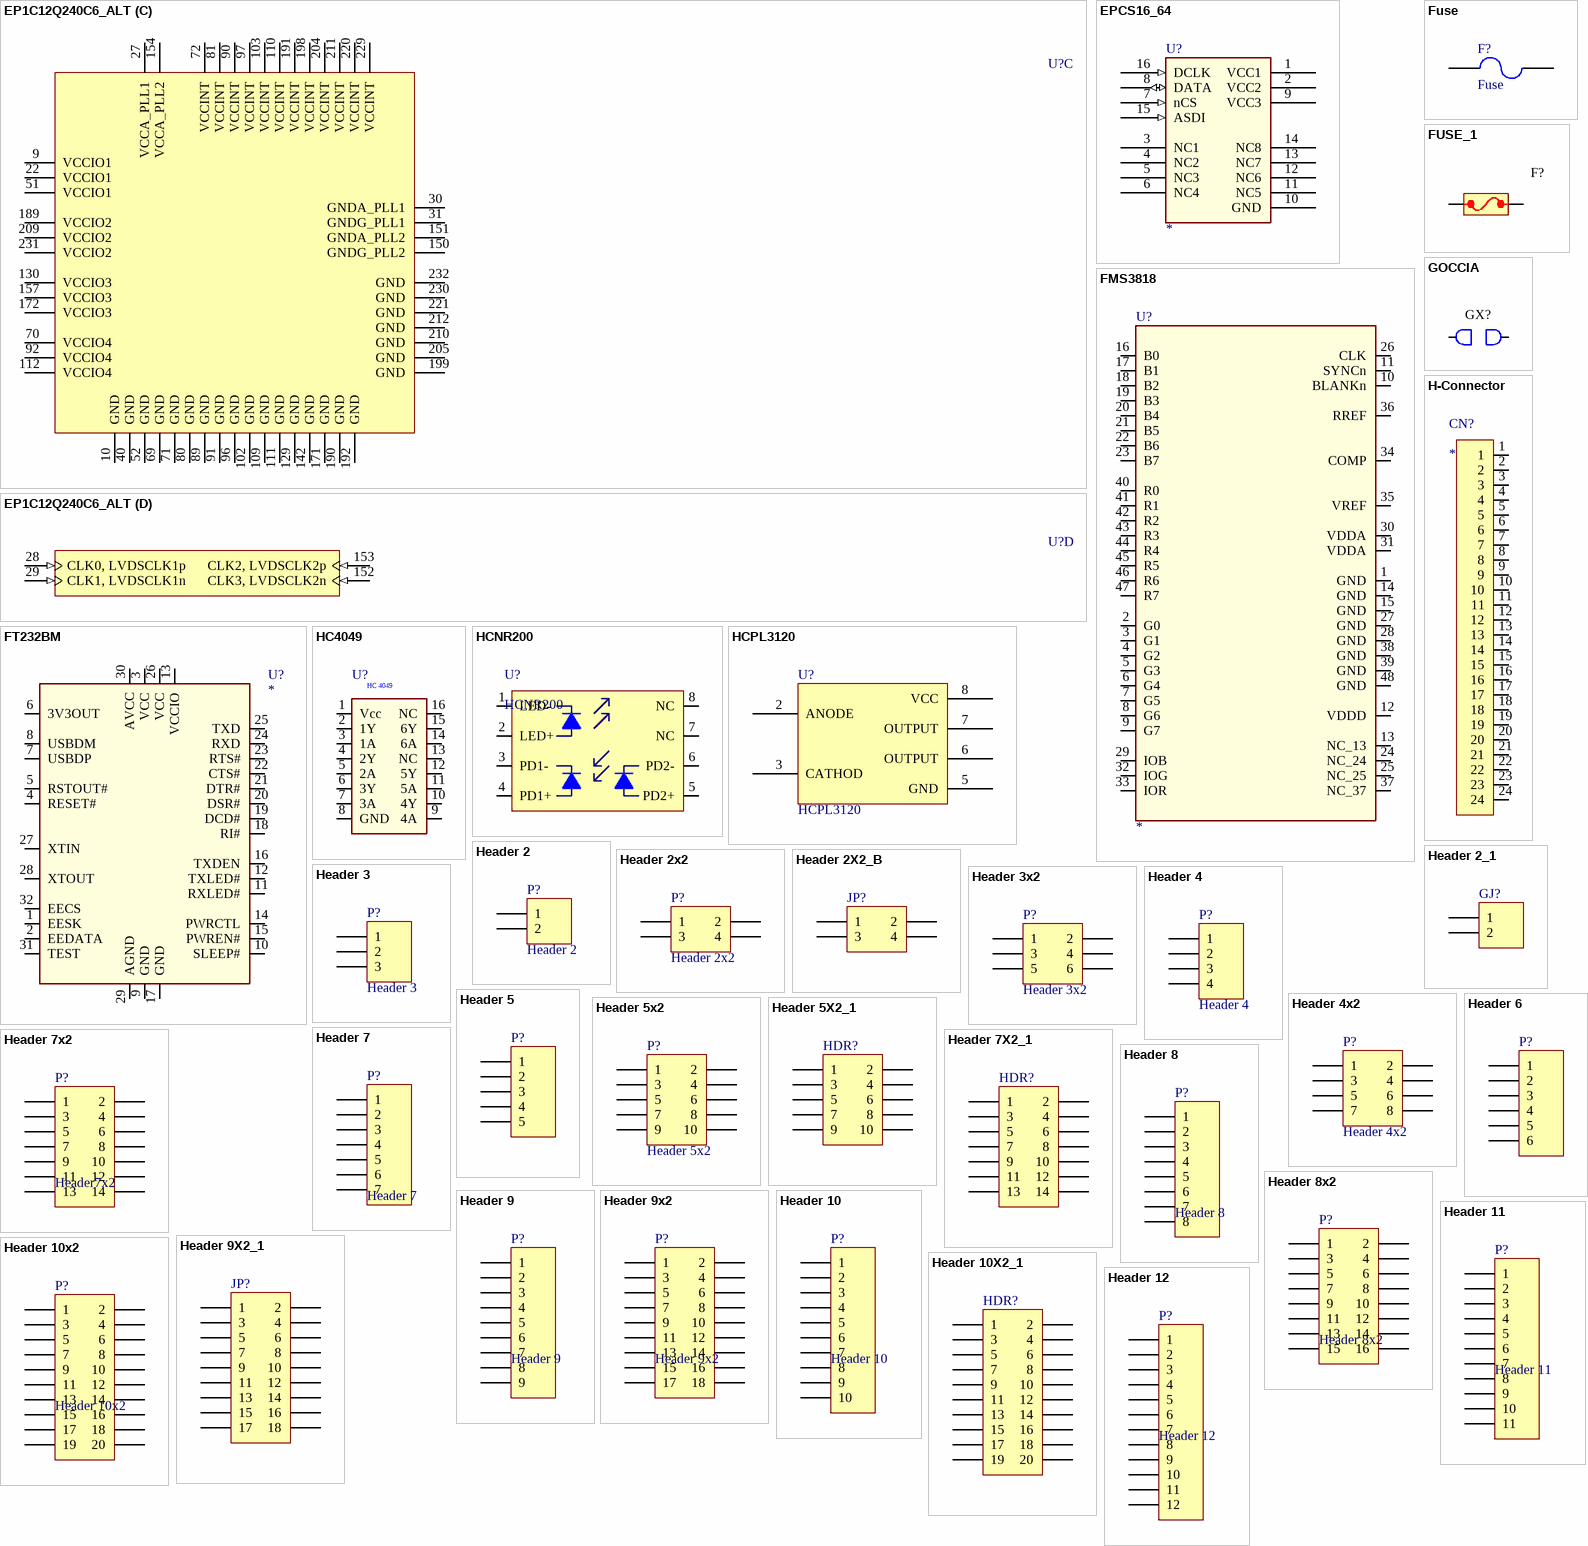
[diagram p12: symbols EP1C12Q240C6_ALT to Header 12]

## EP1C12Q240C6_ALT
designator U?
Cyclone Family, 1.5V FPGA, 173 I/O Pins, 2 x PLLs, Commercial Grade, Speed Grade 6; PackageDocument: ver11.0, Feb-2003; Note: EP1C12Q240C6 in our IntLibs; Vendor: Digikey; Published: 17-Sep-2003; DatasheetDocument: ver1.3, Oct-2003; PackageReference: PQFP240; Publisher: Altium Limited; Code_JEDEC: MS-029-GA; ComponentLink1Description: Digikey Part Link; ComponentLink2Description: Open Datasheet; ComponentLink2URL: H:\LIBRARY\LIBRARY.Datasheet\
footprint F-QFP32X32-G240/P.5N(RS) (240-Pin Plastic Quad Flat Pack (PQFP))
pcadlib F-QFP32X32-G240/P.5N(RS) (240-Pin Plastic Quad Flat Pack (PQFP))
3D model EP1C12-PQFP240 (240-Pin Plastic Quad Flat Pack (PQFP))
signal-integrity model 1c (Cyclone)
part A pins: 1 IO, LVDS23p (INIT_DONE) (io), 2 IO, LVDS23n (io), 3 IO, LVDS22p (CLKUSR) (io), 4 IO, LVDS22n (io), 5 IO, VREF0B1 (io), 6 IO (io), 7 IO, LVDS21p (DQ0L0) (io), 8 IO, LVDS21n (DQ0L1) (io), 11 IO, DPCLK1 (DQS0L) (io), 12 IO, LVDS20p (DQ0L2) (io), 13 IO, LVDS20n (DQ0L3) (io), 14 IO, LVDS19p (io), 15 IO, LVDS19n (io), 16 IO, LVDS18p (io), 17 IO, LVDS18n (io), 18 IO, LVDS17p (io), 19 IO, LVDS17n (io), 20 IO, LVDS16p (io), 21 IO, LVDS16n (DM0L) (io), 23 IO, VREF1B1 (io), 24 IO (nCSO) (io), 37 IO (ASDO) (io), 38 IO, PLL1_OUTp (io), 39 IO, PLL1_OUTn (io), 41 IO, LVDS7n (io), 42 IO, LVDS6p (io), 43 IO, LVDS6n (io), 44 IO, LVDS5p (io), 45 IO, LVDS5n (io), 46 IO, LVDS4p (io), 47 IO, LVDS4n (io), 48 IO, LVDS3p (DQ0L4) (io), 49 IO, LVDS3n (DQ0L5) (io), 50 IO, DPCLK0 (DQS1L) (io), 53 IO, LVDS2p (DQ0L6) (io), 54 IO, LVDS2n (DQ0L7) (io), 55 IO, VREF2B1 (io), 56 IO (io), 57 IO, LVDS1p (io), 58 IO, LVDS1n (io), 59 IO, LVDS0p (io), 60 IO, LVDS0n (io), 61 IO, LVDS102p (io), 62 IO, LVDS102n (io), 63 IO, LVDS101p (io), 64 IO, LVDS101n (io), 65 IO, LVDS100p (io), 66 IO, LVDS100n (io), 67 IO, LVDS99p (DQ1B7) (io), 68 IO, LVDS99n (DQ1B6) (io), 73 IO, DPCLK7 (DQS1B) (io), 74 IO, VREF2B4 (io), 75 IO, LVDS98p (io), 76 IO, LVDS98n (DQ1B5) (io), 77 IO, LVDS97p (DQ1B4) (io), 78 IO, LVDS97n (io), 79 IO, LVDS96p (io), 82 IO, LVDS95p (io), 83 IO, LVDS95n (io), 84 IO, LVDS94p (io), 85 IO, LVDS94n (io), 86 IO, LVDS93p (io), 87 IO, LVDS93n (io), 88 IO, LVDS92p (io), 93 IO, VREF1B4 (io), 94 IO, LVDS87p (DM1B) (io), 95 IO, LVDS87n (io), 98 IO, LVDS86p (io), 99 IO, LVDS86n (io), 100 IO, LVDS85p (io), 101 IO, LVDS85n (io), 104 IO, LVDS80p (io), 105 IO, LVDS80n (io), 106 IO (io), 107 IO, VREF0B4 (io), 108 IO, DPCLK6 (DQS0B) (io), 113 IO, LVDS79p (DQ1B3) (io), 114 IO, LVDS79n (DQ1B2) (io), 115 IO, LVDS78p (DQ1B1) (io), 116 IO, LVDS78n (DQ1B0) (io), 117 IO, LVDS77p (io), 118 IO, LVDS77n (io), 119 IO, LVDS76p (io), 120 IO, LVDS76n (io), 121 IO, LVDS75n (io), 122 IO, LVDS75p (io), 123 IO, LVDS74n (io), 124 IO, LVDS74p (io), 125 IO, LVDS73n (DQ1R7) (io), 126 IO, LVDS73p (io), 127 IO, VREF2B3 (io), 128 IO (DQ1R6) (io), 131 IO, DPCLK5 (DQS1R) (io), 132 IO, LVDS72n (DQ1R5) (io), 133 IO, LVDS72p (DQ1R4) (io), 134 IO, LVDS71n (io), 135 IO, LVDS71p (io), 136 IO, LVDS70n (io), 137 IO, LVDS70p (io), 138 IO, LVDS69n (io), 139 IO, LVDS69p (io), 140 IO, LVDS68n (io), 141 IO, LVDS68p (io), 143 IO, PLL2_OUTn (io), 144 IO, PLL2_OUTp (io), 156 IO, VREF1B3 (io), 158 IO, LVDS59n (DM1R) (io), 159 IO, LVDS59p (io), 160 IO, LVDS58n (io), 161 IO, LVDS58p (io), 162 IO, LVDS57n (io), 163 IO, LVDS57p (io), 164 IO, LVDS56n (io), 165 IO, LVDS56p (io), 166 IO, LVDS55n (io), 167 IO, LVDS55p (io), 168 IO, LVDS54n (io), 169 IO, LVDS54p (DQ1R3) (io), 170 IO, DPCLK4 (DQS0R) (io), 173 IO, LVDS53n (DQ1R2) (io), 174 IO, LVDS53p (DQ1R1) (io), 175 IO (DQ1R0) (io), 176 IO, VREF0B3 (io), 177 IO, LVDS52n (io), 178 IO, LVDS52p (io), 179 IO, LVDS51n (io), 180 IO, LVDS51p (io), 181 IO, LVDS50n (io), 182 IO, LVDS50p (io), 183 IO, LVDS49n (io), 184 IO, LVDS49p (io), 185 IO, LVDS48n (DQ0T0) (io), 186 IO, LVDS48p (DQ0T1) (io), 187 IO, LVDS47n (DQ0T2) (io), 188 IO, LVDS47p (DQ0T3) (io), 193 IO, DPCLK3 (DQS0T) (io), 194 IO, VREF0B2 (io), 195 IO (io), 196 IO, LVDS46n (io), 197 IO, LVDS46p (io), 200 IO, LVDS41n (io), 201 IO, LVDS41p (io), 202 IO, LVDS40n (io), 203 IO, LVDS40p (io), 206 IO, LVDS39n (DM0T) (io), 207 IO, LVDS39p (io), 208 IO, VREF1B2 (io), 213 IO, LVDS34p (io), 214 IO, LVDS33n (io), 215 IO, LVDS33p (io), 216 IO, LVDS32n (io), 217 IO, LVDS32p (io), 218 IO, LVDS31n (io), 219 IO, LVDS31p (io), 222 IO, LVDS30p (io), 223 IO, LVDS29n (io), 224 IO, LVDS29p (io), 225 IO, LVDS28n (io), 226 IO, LVDS28p (io), 227 IO, VREF2B2 (io), 228 IO, DPCLK2 (DQS1T) (io), 233 IO, LVDS27n (DQ0T4) (io), 234 IO, LVDS27p (DQ0T5) (io), 235 IO, LVDS26n (DQ0T6) (io), 236 IO, LVDS26p (DQ0T7) (io), 237 IO, LVDS25n (io), 238 IO, LVDS25p (io), 239 IO, LVDS24n (DEV_OE) (io), 240 IO, LVDS24p (DEV_CLRn) (io)
part B pins: 25 DATA0 (in), 26 nCONFIG (in), 32 nCEO (out), 33 nCE (in), 34 MSEL0 (in), 35 MSEL1 (in), 36 DCLK (io), 145 CONF_DONE (io), 146 nSTATUS (io), 147 TCK (in), 148 TMS (in), 149 TDO (out), 155 TDI (in)
part C pins: 9 VCCIO1 (power), 10 GND (power), 22 VCCIO1 (power), 27 VCCA_PLL1 (power), 30 GNDA_PLL1 (power), 31 GNDG_PLL1 (power), 40 GND (power), 51 VCCIO1 (power), 52 GND (power), 69 GND (power), 70 VCCIO4 (power), 71 GND (power), 72 VCCINT (power), 80 GND (power), 81 VCCINT (power), 89 GND (power), 90 VCCINT (power), 91 GND (power), 92 VCCIO4 (power), 96 GND (power), 97 VCCINT (power), 102 GND (power), 103 VCCINT (power), 109 GND (power), 110 VCCINT (power), 111 GND (power), 112 VCCIO4 (power), 129 GND (power), 130 VCCIO3 (power), 142 GND (power), 150 GNDG_PLL2 (power), 151 GNDA_PLL2 (power), 154 VCCA_PLL2 (power), 157 VCCIO3 (power), 171 GND (power), 172 VCCIO3 (power), 189 VCCIO2 (power), 190 GND (power), 191 VCCINT (power), 192 GND (power), 198 VCCINT (power), 199 GND (power), 204 VCCINT (power), 205 GND (power), 209 VCCIO2 (power), 210 GND (power), 211 VCCINT (power), 212 GND (power), 220 VCCINT (power), 221 GND (power), 229 VCCINT (power), 230 GND (power), 231 VCCIO2 (power), 232 GND (power)
part D pins: 28 CLK0, LVDSCLK1p (in), 29 CLK1, LVDSCLK1n (in), 152 CLK3, LVDSCLK2n (in), 153 CLK2, LVDSCLK2p (in)
part A text: BANK 2; BANK 1; BANK 3; BANK 4

## EPCS16_64
designator U?
ComponentLink1Description: Digikey Part Link; ComponentLink2Description: Open Datasheet; ComponentLink2URL: H:\LIBRARY\LIBRARY.Datasheet\
footprint SO16
pins: 1 VCC1, 2 VCC2, 3 NC1, 4 NC2, 5 NC3, 6 NC4, 7 nCS (in), 8 DATA (io), 9 VCC3, 10 GND, 11 NC5, 12 NC6, 13 NC7, 14 NC8, 15 ASDI (in), 16 DCLK (in)

## FMS3818
designator U?
ComponentLink1Description: Digikey Part Link; ComponentLink2Description: Open Datasheet; ComponentLink2URL: H:\LIBRARY\LIBRARY.Datasheet\
footprint LQFP-48
pins: 1 GND (power), 2 G0, 3 G1, 4 G2, 5 G3, 6 G4, 7 G5, 8 G6, 9 G7, 10 BLANKn, 11 SYNCn, 12 VDDD (power), 13 NC_13, 14 GND (power), 15 GND (power), 16 B0, 17 B1, 18 B2, 19 B3, 20 B4, 21 B5, 22 B6, 23 B7, 24 NC_24, 25 NC_25, 26 CLK, 27 GND (power), 28 GND (power), 29 IOB, 30 VDDA (power), 31 VDDA (power), 32 IOG, 33 IOR, 34 COMP, 35 VREF, 36 RREF, 37 NC_37, 38 GND (power), 39 GND (power), 40 R0, 41 R1, 42 R2, 43 R3, 44 R4, 45 R5, 46 R6, 47 R7, 48 GND (power)

## FT232BM
designator U?
USB to Serial Bridge; Company: Future Technology Devices; Vendor: Digikey; Publisher: Hoang Nguyen; Price: 67.000 VND [http://www.chipletran.com]; ComponentLink2Description: Open Datasheet; ComponentLink2URL: H:\LIBRARY\LIBRARY.Datasheet\DS_FT232BM.pdf; Published: 13-April-2009; ComponentLink1Description: Digikey Part Link
footprint QFP32.FT232BM (QFP, 32-Leads, Body 9x9mm, Pitch 0.8mm, IPC Medium Density)
pins: 1 EESK, 2 EEDATA, 3 VCC, 4 RESET#, 5 RSTOUT#, 6 3V3OUT, 7 USBDP, 8 USBDM, 9 GND, 10 SLEEP#, 11 RXLED#, 12 TXLED#, 13 VCCIO, 14 PWRCTL, 15 PWREN#, 16 TXDEN, 17 GND, 18 RI#, 19 DCD#, 20 DSR#, 21 DTR#, 22 CTS#, 23 RTS#, 24 RXD, 25 TXD, 26 VCC, 27 XTIN, 28 XTOUT, 29 AGND, 30 AVCC, 31 TEST, 32 EECS

## Fuse
designator F?
Published: 8-Jun-2000; LatestRevisionDate: 17-Jul-2002; LatestRevisionNote: Re-released for DXP Platform.; PackageReference: PIN-W2/E2.8; Publisher: Altium Limited
footprint Fuse (Fuse; 2 Leads)
pins: 1, 2

## FUSE_1
designator F?, comment FUSE  (value not drawn)
Vendor: Digikey; Value: *; Published: 13-April-2009; Publisher: Hoang Nguyen; ComponentLink1Description: Digikey Part Link; ComponentLink2Description: Open Datasheet; ComponentLink2URL: H:\LIBRARY\LIBRARY.Datasheet\
footprint FUSE.SMD2010 (2010 Body 5.0 x 2.5 mm (LxW typ))
footprint FUSE 24.5x9.5
footprint FUSE radial - D8.5-H7.5
footprint Fuse 1
footprint Fuse 1N
pins: 1, 2

## GOCCIA
designator GX?  (value not drawn)
Goccia a saldare; Vendor: Digikey; Value: *; Published: 13-April-2009; Publisher: Hoang Nguyen; ComponentLink1Description: Digikey Part Link; ComponentLink2Description: Open Datasheet; ComponentLink2URL: H:\LIBRARY\LIBRARY.Datasheet\
footprint GOCCIA (Goccia a stagno)
pins: 1, 2

## H-Connector
designator CN?
ComponentLink2Description: Open DataSheet; ComponentLink2URL: H:\LIBRARY\LIBRARY.Datasheet\
footprint H-Connector
pins: 1, 2, 3, 4, 5, 6, 7, 8, 9, 10, 11, 12, 13, 14, 15, 16, 17, 18, 19, 20, 21, 22, 23, 24

## HC4049
designator U?  (value not drawn)
Hex Buffer/Inverter; Vendor: Digikey; Published: 13-April-2009; Publisher: Hoang Nguyen; ComponentLink1Description: Digikey Part Link; ComponentLink2Description: Open Datasheet; ComponentLink2URL: H:\LIBRARY\LIBRARY.Datasheet\
pins: 1 Vcc, 2 1Y, 3 1A, 4 2Y, 5 2A, 6 3Y, 7 3A, 8 GND, 9 4A, 10 4Y, 11 5A, 12 5Y, 13 NC, 14 6A, 15 6Y, 16 NC
text: HC 4049

## HCNR200
designator U?
footprint DIP-8 (DIP, 8-Pin, Row Spacing 7.62 mm, Pitch 2.54 mm)
pins: 1 LED-, 2 LED+, 3 PD1-, 4 PD1+, 5 PD2+, 6 PD2-, 7 NC, 8 NC

## HCPL3120
designator U?
IGBT/Power MOSFET Gate Driver
footprint DIP-8 (DIP, 8-Pin, Row Spacing 7.62 mm, Pitch 2.54 mm)
pins: 2 ANODE, 3 CATHOD, 5 GND, 6 OUTPUT, 7 OUTPUT, 8 VCC

## Header 2
designator P?
Header, 2-Pin; LatestRevisionDate: 17-Jul-2002; LatestRevisionNote: Re-released for DXP Platform.; Publisher: Altium Limited
footprint PHeader 2 (Connector; Header; 2 Position)
footprint Header 2 (Connector; Header; 2 Position)
footprint TBlock 2 (Connector; Terminal; 2 Positions; Solder Pad 35mil)
footprint SHeader 2 (Connector; Header; Signal; 2 Positions; Solder Pad 35mil)
footprint DC Terminal (DC Terminal; Solder Pad 35mil)
footprint M_DC Terminal (DC Terminal; Manufacture-Solder Pad 24mil)
footprint PTBlock 2 (Connector; Terminal; Power; 2 Positions; Solder Pad 35mil)
footprint PHeader 2-V (Connector; Header; Power; 2 Position; Vertical; Solder Pad 35mil)
footprint Header 2-V (Connector; Header; 2 Position; Vertical; Solder Pad 35mil)
pins: 1, 2

## Header 2_1
designator GJ?
2011 Series Header, 2 Pins, 2.54mm pitch; Vendor: Digikey; Published: 5-Jan-2004; Publisher: Altium Limited; ComponentLink1Description: Digikey Part Link; ComponentLink2Description: Open Datasheet; ComponentLink2URL: H:\LIBRARY\LIBRARY.Datasheet\
footprint HDR1X2 (2011 Series Header, 2 Pins, 2.54mm Pitch)
pcadlib HDR1X2 (2011 Series Header, 2 Pins, 2.54mm Pitch)
pins: 1, 2

## Header 2x2
designator P?
Header, 4-Pin, 2-Row; LatestRevisionDate: 17-Jul-2002; LatestRevisionNote: Re-released for DXP Platform.; Publisher: Altium Limited
footprint Header 2x2 (Connector; Header; 4 Position; 2 Row)
pins: 1, 2, 3, 4

## Header 2X2_B
designator JP?
2011 Series Header, 4 Pins, Dual row, 2.54mil pitch; Vendor: Digikey; Published: 5-Jan-2004; Publisher: Altium Limited; ComponentLink1Description: Digikey Part Link; ComponentLink2Description: Open Datasheet; ComponentLink2URL: H:\LIBRARY\LIBRARY.Datasheet\
footprint HDR2X2_B (2011 Series Header, 4 Pins, Dual Row, 2.54mm Pitch)
pcadlib HDR2X2_B (2011 Series Header, 4 Pins, Dual Row, 2.54mm Pitch)
pins: 1, 2, 3, 4

## Header 3
designator P?
Header, 3-Pin; LatestRevisionDate: 17-Jul-2002; LatestRevisionNote: Re-released for DXP Platform.; Publisher: Altium Limited
footprint PHeader 3 (Connector; Power; Header; 3 Position)
footprint Header 3 (Connector; Header; 3 Position)
footprint TBlock 3 (Connector; Terminal; 3 Positions; Solder Pad 35mil)
footprint PTBlock 3 (Connector; Terminal; Power; 3 Positions; Solder Pad 35mil)
footprint PHeader 3-V (Connector; Header; Power; 3 Position; Vertical; Solder Pad 35mil)
footprint Header 3-V (Connector; Header; 3 Position; Vertical; Solder Pad 35mil)
pins: 1, 2, 3

## Header 3x2
designator P?
Header, 6-Pin, 2-Row; LatestRevisionDate: 17-Jul-2002; LatestRevisionNote: Re-released for DXP Platform.; Publisher: Altium Limited
footprint Header 3x2 (Connector; Header; 3 Position)
pins: 1, 2, 3, 4, 5, 6

## Header 4
designator P?
Header, 4-Pin; LatestRevisionDate: 17-Jul-2002; LatestRevisionNote: Re-released for DXP Platform.; Publisher: Altium Limited
footprint PHeader 4 (Connector; Header; Power; 4 Position)
footprint Header 4 (Connector; Header; 4 Position)
footprint Header 4-V (Connector; Header; 4 Position; Vertical; Solder Pad 35mil)
pins: 1, 2, 3, 4

## Header 4x2
designator P?
Header, 8-Pin, 2-Row; LatestRevisionDate: 17-Jul-2002; LatestRevisionNote: Re-released for DXP Platform.; Publisher: Altium Limited
footprint Header 4x2 (Connector; Header; 8 Position; 2 Rows; Solder Pad 35mil)
pins: 1, 2, 3, 4, 5, 6, 7, 8

## Header 5
designator P?
Header, 5-Pin; LatestRevisionDate: 17-Jul-2002; LatestRevisionNote: Re-released for DXP Platform.; Publisher: Altium Limited
footprint Header 5 (Connector; Header; 5 Position)
footprint PHeader 5 (Connector; Header; Power; 5 Position)
footprint Header 5-V (Connector; Header; 5 Position; Vertical; Solder Pad 35mil)
pins: 1, 2, 3, 4, 5

## Header 5x2
designator P?
Header, 10-Pin, 2-Row; LatestRevisionDate: 17-Jul-2002; LatestRevisionNote: Re-released for DXP Platform.; Publisher: Altium Limited
footprint Header 5x2 (Connector; Header; 10 Position; 2 Rows)
pins: 1, 2, 3, 4, 5, 6, 7, 8, 9, 10

## Header 5X2_1
designator HDR?
2011 Series Header, 10 Pins, Dual row, 2.54mm pitch; Vendor: Digikey; Published: 5-Jan-2004; Publisher: Altium Limited; ComponentLink1Description: Digikey Part Link; ComponentLink2Description: Open Datasheet; ComponentLink2URL: H:\LIBRARY\LIBRARY.Datasheet\
footprint HDR2X5 (2011 Series Header, 10 Pins, Dual Row, 2.54mm Pitch)
pcadlib HDR2X5 (2011 Series Header, 10 Pins, Dual Row, 2.54mm Pitch)
pins: 1, 2, 3, 4, 5, 6, 7, 8, 9, 10

## Header 6
designator P?
Header, 6-Pin; LatestRevisionDate: 17-Jul-2002; LatestRevisionNote: Re-released for DXP Platform.; Publisher: Altium Limited
footprint Header 6 (Connector; Header; 6 Position)
footprint PHeader 6 (Connector; Header; Power; 6 Position)
footprint Header 6-V (Connector; Header; 6 Position; Vertical; Solder Pad 35mil)
pins: 1, 2, 3, 4, 5, 6

## Header 7
designator P?
Header, 7-Pin; LatestRevisionDate: 17-Jul-2002; LatestRevisionNote: Re-released for DXP Platform.; Publisher: Altium Limited
footprint Header 7 (Connector; Header; 7 Position; Solder Pad 35mil)
footprint Header 7-V (Connector; Header; 7 Position; Vertical; Solder Pad 35mil)
pins: 1, 2, 3, 4, 5, 6, 7

## Header 7x2
designator P?, comment Header7x2
Header, 14-Pin, 2-Row; LatestRevisionDate: 17-Jul-2002; LatestRevisionNote: Re-released for DXP Platform.; Publisher: Altium Limited
footprint Header 7x2 (Connector; Header; 14 Position; 2 Rows; Solder Pad 35mil)
footprint M_Header 7x2 (Connector; Header; 14 Position; 2 Rows; Manufacture-Solder Pad 24mil)
pins: 1, 2, 3, 4, 5, 6, 7, 8, 9, 10, 11, 12, 13, 14

## Header 7X2_1
designator HDR?
2011 Series Header, 14 Pins, Dual row, 2.54mm pitch; Vendor: Digikey; Published: 5-Jan-2004; Publisher: Altium Limited; ComponentLink1Description: Digikey Part Link; ComponentLink2Description: Open Datasheet; ComponentLink2URL: H:\LIBRARY\LIBRARY.Datasheet\
footprint HDR2X7 (2011 Series Header, 14 Pins, Dual Row, 2.54mm Pitch)
pcadlib HDR2X7 (2011 Series Header, 14 Pins, Dual Row, 2.54mm Pitch)
pins: 1, 2, 3, 4, 5, 6, 7, 8, 9, 10, 11, 12, 13, 14

## Header 8
designator P?
Header, 8-Pin; LatestRevisionDate: 17-Jul-2002; LatestRevisionNote: Re-released for DXP Platform.; Publisher: Altium Limited
footprint Header 8 (Connector; Header; 8 Position)
footprint Header 8-V (Connector; Header; 8 Position; Vertical; Solder Pad 35mil)
pins: 1, 2, 3, 4, 5, 6, 7, 8

## Header 8x2
designator P?
Header, 16-Pin, 2-Row; LatestRevisionDate: 17-Jul-2002; LatestRevisionNote: Re-released for DXP Platform.; Publisher: Altium Limited
footprint Header 8x2 (Connector; Header; 16 Position; 2 Rows; Solder Pad 35mil)
pins: 1, 2, 3, 4, 5, 6, 7, 8, 9, 10, 11, 12, 13, 14, 15, 16

## Header 9
designator P?
Header, 9-Pin; LatestRevisionDate: 17-Jul-2002; LatestRevisionNote: Re-released for DXP Platform.; Publisher: Altium Limited
footprint Header 9 (Connector; Header; 9 Position; Solder Pad 35mil)
footprint Header 9-V (Connector; Header; 9 Position; Vertical; Solder Pad 35mil)
pins: 1, 2, 3, 4, 5, 6, 7, 8, 9

## Header 9x2
designator P?
Header, 18-Pin, 2-Row; LatestRevisionDate: 17-Jul-2002; LatestRevisionNote: Re-released for DXP Platform.; Publisher: Altium Limited
footprint Header 9x2 (Connector; Header; 18 Position; 2 Rows; Solder Pad 35mil)
pins: 1, 2, 3, 4, 5, 6, 7, 8, 9, 10, 11, 12, 13, 14, 15, 16, 17, 18

## Header 9X2_1
designator JP?
2011 Series Header, 18 Pins, Dual row, 2.54mm pitch; Vendor: Digikey; Published: 5-Jan-2004; Publisher: Altium Limited; ComponentLink1Description: Digikey Part Link; ComponentLink2Description: Open Datasheet; ComponentLink2URL: H:\LIBRARY\LIBRARY.Datasheet\
footprint HDR2X9 (2011 Series Header, 18 Pins, Dual Row, 2.54mm Pitch)
pcadlib HDR2X9 (2011 Series Header, 18 Pins, Dual Row, 2.54mm Pitch)
pins: 1, 2, 3, 4, 5, 6, 7, 8, 9, 10, 11, 12, 13, 14, 15, 16, 17, 18

## Header 10
designator P?
Header, 10-Pin; LatestRevisionDate: 17-Jul-2002; LatestRevisionNote: Re-released for DXP Platform.; Publisher: Altium Limited
footprint Header 10 (Connector; Header; 10 Position)
footprint Header 10-V (Connector; Header; 10 Position; Vertical; Solder Pad 35mil)
pins: 1, 2, 3, 4, 5, 6, 7, 8, 9, 10

## Header 10x2
designator P?
Header, 20-Pin, 2-Row; LatestRevisionDate: 17-Jul-2002; LatestRevisionNote: Re-released for DXP Platform.; Publisher: Altium Limited
footprint Header 10x2 (Connector; Header; 20 Position; 2 Rows; Solder Pad 35mil)
footprint M_Header 10x2 (Connector; Header; 20 Position; 2 Rows; Manufacture-Solder Pad 24mil)
pins: 1, 2, 3, 4, 5, 6, 7, 8, 9, 10, 11, 12, 13, 14, 15, 16, 17, 18, 19, 20

## Header 10X2_1
designator HDR?
2011 Series Header, 20 Pins, Dual row, 2.54mm pitch; Vendor: Digikey; Published: 5-Jan-2004; Publisher: Altium Limited; ComponentLink1Description: Digikey Part Link; ComponentLink2Description: Open Datasheet; ComponentLink2URL: H:\LIBRARY\LIBRARY.Datasheet\
footprint HDR2X10 (2011 Series Header, 20 Pins, Dual Row, 2.54mm Pitch)
pcadlib HDR2X10 (2011 Series Header, 20 Pins, Dual Row, 2.54mm Pitch)
pins: 1, 2, 3, 4, 5, 6, 7, 8, 9, 10, 11, 12, 13, 14, 15, 16, 17, 18, 19, 20